# Altium schematic symbol library arthurbenemann-Atmel.SchLib: 651 symbols (part 14 of 28)
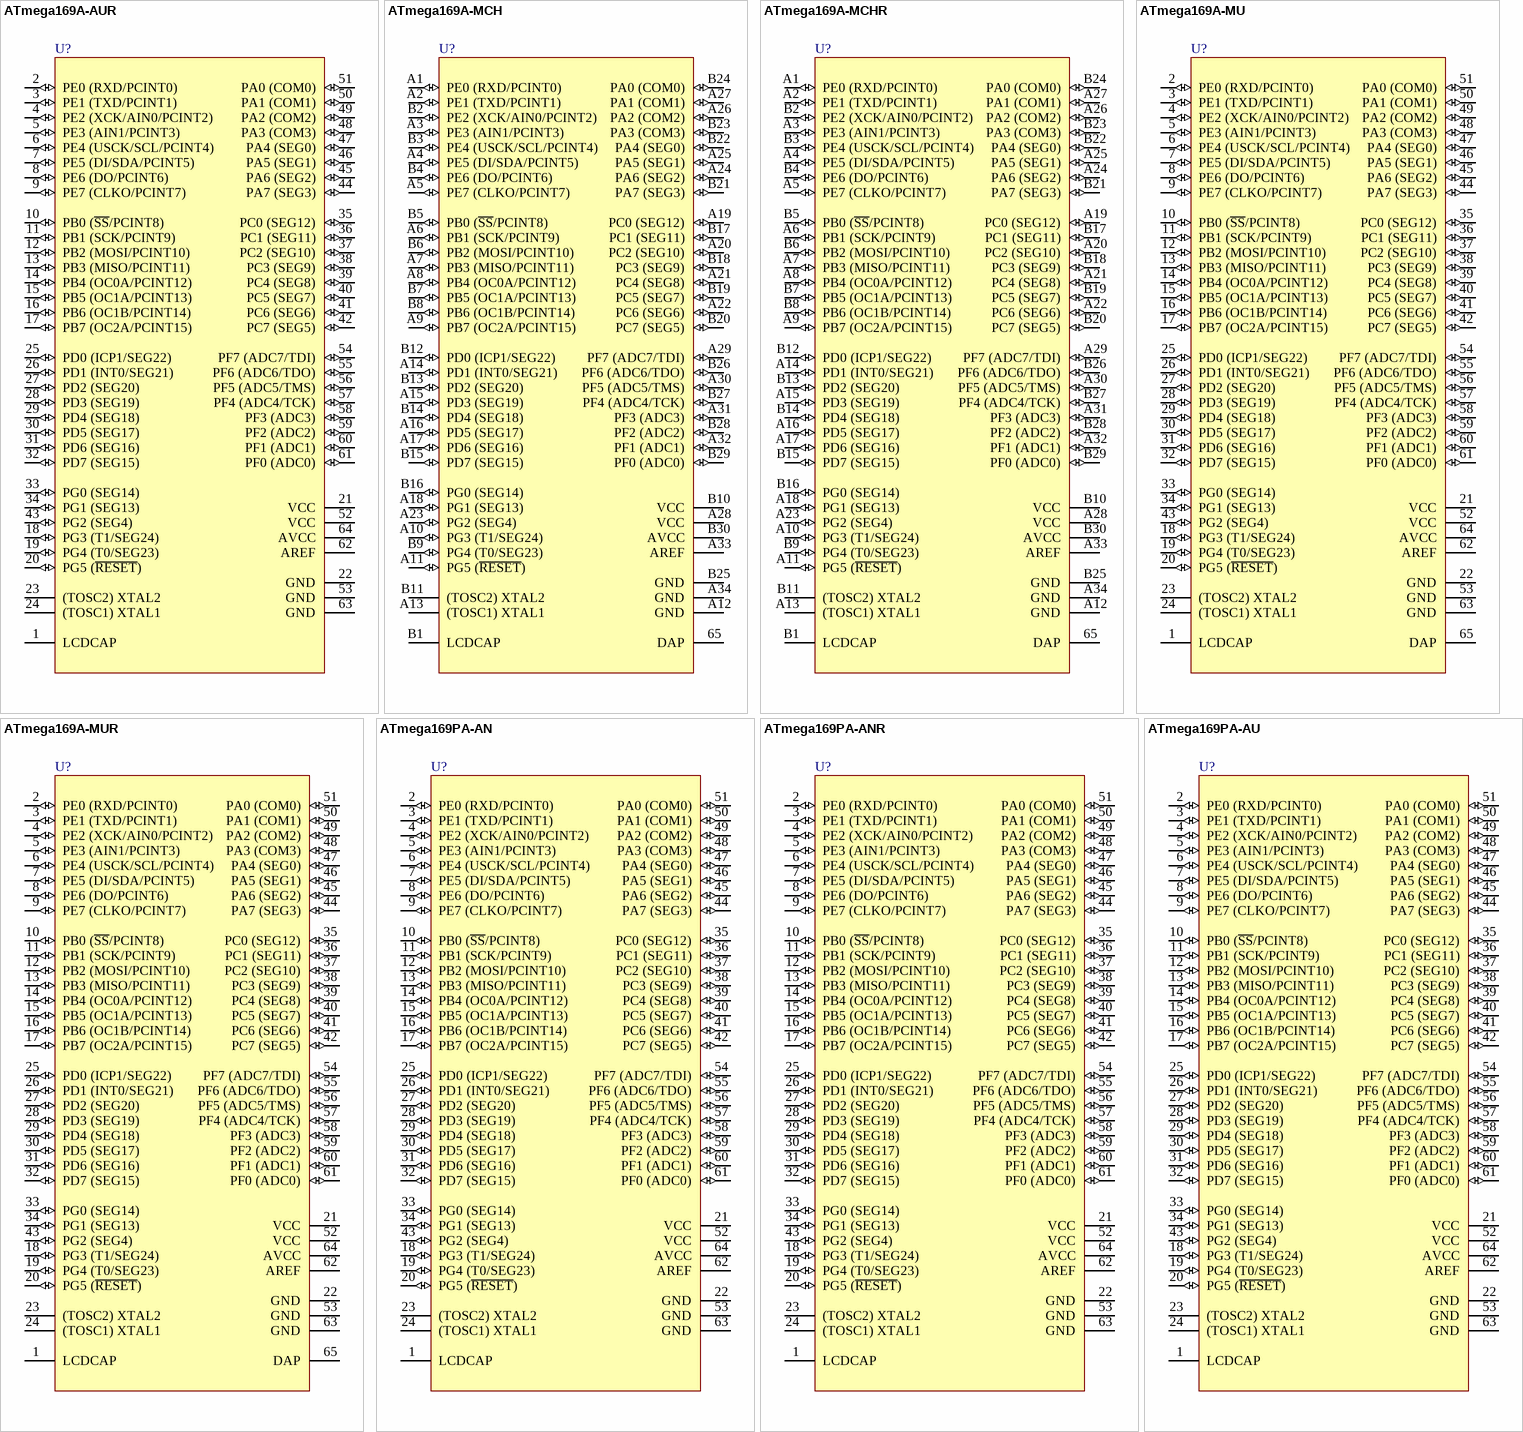
[diagram p99: symbols ATmega169A-AUR to ATmega169PA-AU]

## ATmega169PA-AU
designator U?
8-bit AVR Microcontroller, 1.8-5.5V, 16KB Flash, 512 Bytes EEPROM, 1KB SRAM, 64-pin TQFP, Industrial Grade (-40°C to 85°C); DatasheetVersion: revD, Jun-2011; PackageVersion: revC, Oct-2010; PackageReference: 64A; PackageDescription: 64-Pin Plastic Thin Profile Quad Flat Pack, 14 x 14 x 1.0 mm Body, 0.8 mm Pitch (TQFP); Code_JEDEC: MS-026-AEB; ComponentLink1Description: Manufacturer URL; ComponentLink1URL: http://www.atmel.com/; ComponentLink2Description: ATmega169A/PA/329A/PA/3290A/PA/649A/P/6490A/P; ComponentLink2URL: http://www.atmel.com/dyn/resources/prod_documents/doc8284.pdf; ComponentLink3Description: ATmega169A/PA/329A/PA/3290A/PA/649A/P/6490/A/P Summary; ComponentLink3URL: http://www.atmel.com/dyn/resources/prod_documents/8284S.pdf
footprint 64A_N (Thin QFP, 64-Leads, Body 14x14mm, Pitch 0.8mm, IPC Medium Density)
footprint 64A_L (Thin QFP, 64-Leads, Body 14x14mm, Pitch 0.8mm, IPC High Density)
footprint 64A_M (Thin QFP, 64-Leads, Body 14x14mm, Pitch 0.8mm, IPC Low Density)
pins: 1 LCDCAP, 2 PE0 (RXD/PCINT0) (io), 3 PE1 (TXD/PCINT1) (io), 4 PE2 (XCK/AIN0/PCINT2) (io), 5 PE3 (AIN1/PCINT3) (io), 6 PE4 (USCK/SCL/PCINT4) (io), 7 PE5 (DI/SDA/PCINT5) (io), 8 PE6 (DO/PCINT6) (io), 9 PE7 (CLKO/PCINT7) (io), 10 PB0 (~{SS}/PCINT8) (io), 11 PB1 (SCK/PCINT9) (io), 12 PB2 (MOSI/PCINT10) (io), 13 PB3 (MISO/PCINT11) (io), 14 PB4 (OC0A/PCINT12) (io), 15 PB5 (OC1A/PCINT13) (io), 16 PB6 (OC1B/PCINT14) (io), 17 PB7 (OC2A/PCINT15) (io), 18 PG3 (T1/SEG24) (io), 19 PG4 (T0/SEG23) (io), 20 PG5 (~{RESET}) (io), 21 VCC (power), 22 GND (power), 23 (TOSC2) XTAL2, 24 (TOSC1) XTAL1, 25 PD0 (ICP1/SEG22) (io), 26 PD1 (INT0/SEG21) (io), 27 PD2 (SEG20) (io), 28 PD3 (SEG19) (io), 29 PD4 (SEG18) (io), 30 PD5 (SEG17) (io), 31 PD6 (SEG16) (io), 32 PD7 (SEG15) (io), 33 PG0 (SEG14) (io), 34 PG1 (SEG13) (io), 35 PC0 (SEG12) (io), 36 PC1 (SEG11) (io), 37 PC2 (SEG10) (io), 38 PC3 (SEG9) (io), 39 PC4 (SEG8) (io), 40 PC5 (SEG7) (io), 41 PC6 (SEG6) (io), 42 PC7 (SEG5) (io), 43 PG2 (SEG4) (io), 44 PA7 (SEG3) (io), 45 PA6 (SEG2) (io), 46 PA5 (SEG1) (io), 47 PA4 (SEG0) (io), 48 PA3 (COM3) (io), 49 PA2 (COM2) (io), 50 PA1 (COM1) (io), 51 PA0 (COM0) (io), 52 VCC (power), 53 GND (power), 54 PF7 (ADC7/TDI) (io), 55 PF6 (ADC6/TDO) (io), 56 PF5 (ADC5/TMS) (io), 57 PF4 (ADC4/TCK) (io), 58 PF3 (ADC3) (io), 59 PF2 (ADC2) (io), 60 PF1 (ADC1) (io), 61 PF0 (ADC0) (io), 62 AREF, 63 GND (power), 64 AVCC (power)

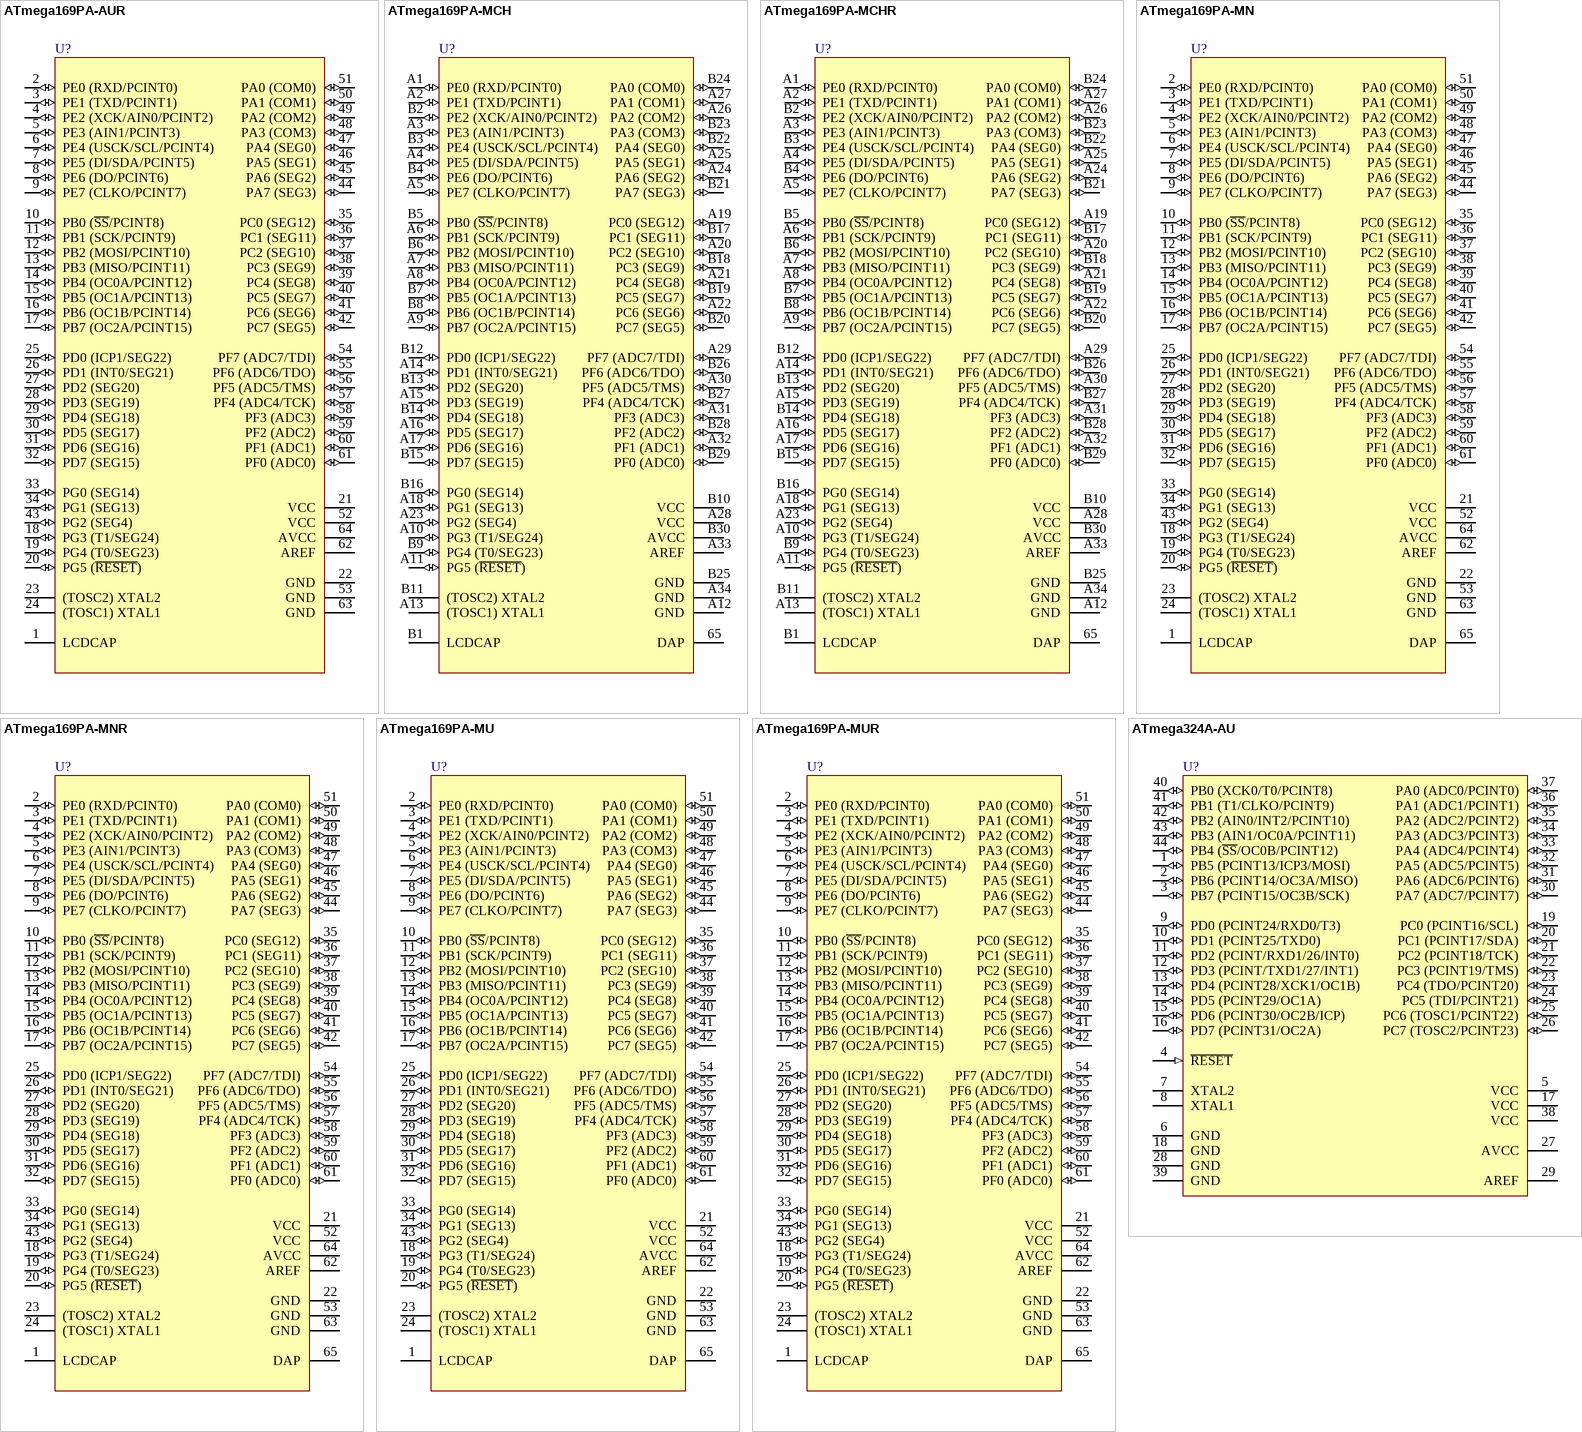
[diagram p35: symbols ATmega169PA-AUR to ATmega324A-AU]

## ATmega169PA-AUR
designator U?
8-bit AVR Microcontroller, 1.8-5.5V, 16KB Flash, 512 Bytes EEPROM, 1KB SRAM, 64-pin TQFP, Industrial Grade (-40°C to 85°C), Reel; DatasheetVersion: revD, Jun-2011; PackageVersion: revC, Oct-2010; PackageReference: 64A; PackageDescription: 64-Pin Plastic Thin Profile Quad Flat Pack, 14 x 14 x 1.0 mm Body, 0.8 mm Pitch (TQFP); Code_JEDEC: MS-026-AEB; ComponentLink1Description: Manufacturer URL; ComponentLink1URL: http://www.atmel.com/; ComponentLink2Description: ATmega169A/PA/329A/PA/3290A/PA/649A/P/6490A/P; ComponentLink2URL: http://www.atmel.com/dyn/resources/prod_documents/doc8284.pdf; ComponentLink3Description: ATmega169A/PA/329A/PA/3290A/PA/649A/P/6490/A/P Summary; ComponentLink3URL: http://www.atmel.com/dyn/resources/prod_documents/8284S.pdf
footprint 64A_N (Thin QFP, 64-Leads, Body 14x14mm, Pitch 0.8mm, IPC Medium Density)
footprint 64A_L (Thin QFP, 64-Leads, Body 14x14mm, Pitch 0.8mm, IPC High Density)
footprint 64A_M (Thin QFP, 64-Leads, Body 14x14mm, Pitch 0.8mm, IPC Low Density)
pins: 1 LCDCAP, 2 PE0 (RXD/PCINT0) (io), 3 PE1 (TXD/PCINT1) (io), 4 PE2 (XCK/AIN0/PCINT2) (io), 5 PE3 (AIN1/PCINT3) (io), 6 PE4 (USCK/SCL/PCINT4) (io), 7 PE5 (DI/SDA/PCINT5) (io), 8 PE6 (DO/PCINT6) (io), 9 PE7 (CLKO/PCINT7) (io), 10 PB0 (~{SS}/PCINT8) (io), 11 PB1 (SCK/PCINT9) (io), 12 PB2 (MOSI/PCINT10) (io), 13 PB3 (MISO/PCINT11) (io), 14 PB4 (OC0A/PCINT12) (io), 15 PB5 (OC1A/PCINT13) (io), 16 PB6 (OC1B/PCINT14) (io), 17 PB7 (OC2A/PCINT15) (io), 18 PG3 (T1/SEG24) (io), 19 PG4 (T0/SEG23) (io), 20 PG5 (~{RESET}) (io), 21 VCC (power), 22 GND (power), 23 (TOSC2) XTAL2, 24 (TOSC1) XTAL1, 25 PD0 (ICP1/SEG22) (io), 26 PD1 (INT0/SEG21) (io), 27 PD2 (SEG20) (io), 28 PD3 (SEG19) (io), 29 PD4 (SEG18) (io), 30 PD5 (SEG17) (io), 31 PD6 (SEG16) (io), 32 PD7 (SEG15) (io), 33 PG0 (SEG14) (io), 34 PG1 (SEG13) (io), 35 PC0 (SEG12) (io), 36 PC1 (SEG11) (io), 37 PC2 (SEG10) (io), 38 PC3 (SEG9) (io), 39 PC4 (SEG8) (io), 40 PC5 (SEG7) (io), 41 PC6 (SEG6) (io), 42 PC7 (SEG5) (io), 43 PG2 (SEG4) (io), 44 PA7 (SEG3) (io), 45 PA6 (SEG2) (io), 46 PA5 (SEG1) (io), 47 PA4 (SEG0) (io), 48 PA3 (COM3) (io), 49 PA2 (COM2) (io), 50 PA1 (COM1) (io), 51 PA0 (COM0) (io), 52 VCC (power), 53 GND (power), 54 PF7 (ADC7/TDI) (io), 55 PF6 (ADC6/TDO) (io), 56 PF5 (ADC5/TMS) (io), 57 PF4 (ADC4/TCK) (io), 58 PF3 (ADC3) (io), 59 PF2 (ADC2) (io), 60 PF1 (ADC1) (io), 61 PF0 (ADC0) (io), 62 AREF, 63 GND (power), 64 AVCC (power)

## ATmega169PA-MCH
designator U?
8-bit AVR Microcontroller, 1.8-5.5V, 16KB Flash, 512 Bytes EEPROM, 1KB SRAM, 64-pin DRQFN, Industrial Grade (-40°C to 85°C); DatasheetVersion: revD, Jun-2011; PackageVersion: revA, Oct-2007; PackageReference: 64MC; PackageDescription: 64-Pin Quad Flat No-Lead (2-Row Staggered), 7 x 7 x 1 mm Body, 4.0 x 4.0 mm Exposed Pad; ComponentLink1Description: Manufacturer URL; ComponentLink1URL: http://www.atmel.com/; ComponentLink2Description: ATmega169A/PA/329A/PA/3290A/PA/649A/P/6490A/P; ComponentLink2URL: http://www.atmel.com/dyn/resources/prod_documents/doc8284.pdf; ComponentLink3Description: ATmega169A/PA/329A/PA/3290A/PA/649A/P/6490/A/P Summary; ComponentLink3URL: http://www.atmel.com/dyn/resources/prod_documents/8284S.pdf
footprint 64MC (QFN, 64-Leads, 2-Rows Staggered, Body 7x7mm, Pitch 0.65mm, Thermal Pad 4x4mm)
pins: 65 DAP (power), A1 PE0 (RXD/PCINT0) (io), A2 PE1 (TXD/PCINT1) (io), A3 PE3 (AIN1/PCINT3) (io), A4 PE5 (DI/SDA/PCINT5) (io), A5 PE7 (CLKO/PCINT7) (io), A6 PB1 (SCK/PCINT9) (io), A7 PB3 (MISO/PCINT11) (io), A8 PB4 (OC0A/PCINT12) (io), A9 PB7 (OC2A/PCINT15) (io), A10 PG3 (T1/SEG24) (io), A11 PG5 (~{RESET}) (io), A12 GND (power), A13 (TOSC1) XTAL1, A14 PD1 (INT0/SEG21) (io), A15 PD3 (SEG19) (io), A16 PD5 (SEG17) (io), A17 PD6 (SEG16) (io), A18 PG1 (SEG13) (io), A19 PC0 (SEG12) (io), A20 PC2 (SEG10) (io), A21 PC4 (SEG8) (io), A22 PC6 (SEG6) (io), A23 PG2 (SEG4) (io), A24 PA6 (SEG2) (io), A25 PA5 (SEG1) (io), A26 PA2 (COM2) (io), A27 PA1 (COM1) (io), A28 VCC (power), A29 PF7 (ADC7/TDI) (io), A30 PF5 (ADC5/TMS) (io), A31 PF3 (ADC3) (io), A32 PF1 (ADC1) (io), A33 AREF, A34 GND (power), B1 LCDCAP, B2 PE2 (XCK/AIN0/PCINT2) (io), B3 PE4 (USCK/SCL/PCINT4) (io), B4 PE6 (DO/PCINT6) (io), B5 PB0 (~{SS}/PCINT8) (io), B6 PB2 (MOSI/PCINT10) (io), B7 PB5 (OC1A/PCINT13) (io), B8 PB6 (OC1B/PCINT14) (io), B9 PG4 (T0/SEG23) (io), B10 VCC (power), B11 (TOSC2) XTAL2, B12 PD0 (ICP1/SEG22) (io), B13 PD2 (SEG20) (io), B14 PD4 (SEG18) (io), B15 PD7 (SEG15) (io), B16 PG0 (SEG14) (io), B17 PC1 (SEG11) (io), B18 PC3 (SEG9) (io), B19 PC5 (SEG7) (io), B20 PC7 (SEG5) (io), B21 PA7 (SEG3) (io), B22 PA4 (SEG0) (io), B23 PA3 (COM3) (io), B24 PA0 (COM0) (io), B25 GND (power), B26 PF6 (ADC6/TDO) (io), B27 PF4 (ADC4/TCK) (io), B28 PF2 (ADC2) (io), B29 PF0 (ADC0) (io), B30 AVCC (power)

## ATmega169PA-MCHR
designator U?
8-bit AVR Microcontroller, 1.8-5.5V, 16KB Flash, 512 Bytes EEPROM, 1KB SRAM, 64-pin DRQFN, Industrial Grade (-40°C to 85°C), Reel; DatasheetVersion: revD, Jun-2011; PackageVersion: revA, Oct-2007; PackageReference: 64MC; PackageDescription: 64-Pin Quad Flat No-Lead (2-Row Staggered), 7 x 7 x 1 mm Body, 4.0 x 4.0 mm Exposed Pad; ComponentLink1Description: Manufacturer URL; ComponentLink1URL: http://www.atmel.com/; ComponentLink2Description: ATmega169A/PA/329A/PA/3290A/PA/649A/P/6490A/P; ComponentLink2URL: http://www.atmel.com/dyn/resources/prod_documents/doc8284.pdf; ComponentLink3Description: ATmega169A/PA/329A/PA/3290A/PA/649A/P/6490/A/P Summary; ComponentLink3URL: http://www.atmel.com/dyn/resources/prod_documents/8284S.pdf
footprint 64MC (QFN, 64-Leads, 2-Rows Staggered, Body 7x7mm, Pitch 0.65mm, Thermal Pad 4x4mm)
pins: 65 DAP (power), A1 PE0 (RXD/PCINT0) (io), A2 PE1 (TXD/PCINT1) (io), A3 PE3 (AIN1/PCINT3) (io), A4 PE5 (DI/SDA/PCINT5) (io), A5 PE7 (CLKO/PCINT7) (io), A6 PB1 (SCK/PCINT9) (io), A7 PB3 (MISO/PCINT11) (io), A8 PB4 (OC0A/PCINT12) (io), A9 PB7 (OC2A/PCINT15) (io), A10 PG3 (T1/SEG24) (io), A11 PG5 (~{RESET}) (io), A12 GND (power), A13 (TOSC1) XTAL1, A14 PD1 (INT0/SEG21) (io), A15 PD3 (SEG19) (io), A16 PD5 (SEG17) (io), A17 PD6 (SEG16) (io), A18 PG1 (SEG13) (io), A19 PC0 (SEG12) (io), A20 PC2 (SEG10) (io), A21 PC4 (SEG8) (io), A22 PC6 (SEG6) (io), A23 PG2 (SEG4) (io), A24 PA6 (SEG2) (io), A25 PA5 (SEG1) (io), A26 PA2 (COM2) (io), A27 PA1 (COM1) (io), A28 VCC (power), A29 PF7 (ADC7/TDI) (io), A30 PF5 (ADC5/TMS) (io), A31 PF3 (ADC3) (io), A32 PF1 (ADC1) (io), A33 AREF, A34 GND (power), B1 LCDCAP, B2 PE2 (XCK/AIN0/PCINT2) (io), B3 PE4 (USCK/SCL/PCINT4) (io), B4 PE6 (DO/PCINT6) (io), B5 PB0 (~{SS}/PCINT8) (io), B6 PB2 (MOSI/PCINT10) (io), B7 PB5 (OC1A/PCINT13) (io), B8 PB6 (OC1B/PCINT14) (io), B9 PG4 (T0/SEG23) (io), B10 VCC (power), B11 (TOSC2) XTAL2, B12 PD0 (ICP1/SEG22) (io), B13 PD2 (SEG20) (io), B14 PD4 (SEG18) (io), B15 PD7 (SEG15) (io), B16 PG0 (SEG14) (io), B17 PC1 (SEG11) (io), B18 PC3 (SEG9) (io), B19 PC5 (SEG7) (io), B20 PC7 (SEG5) (io), B21 PA7 (SEG3) (io), B22 PA4 (SEG0) (io), B23 PA3 (COM3) (io), B24 PA0 (COM0) (io), B25 GND (power), B26 PF6 (ADC6/TDO) (io), B27 PF4 (ADC4/TCK) (io), B28 PF2 (ADC2) (io), B29 PF0 (ADC0) (io), B30 AVCC (power)

## ATmega169PA-MN
designator U?
8-bit AVR Microcontroller, 1.8-5.5V, 16KB Flash, 512 Bytes EEPROM, 1KB SRAM, 64-pin MLF, Extended Grade (-40°C to 105°C); DatasheetVersion: revD, Jun-2011; PackageVersion: revH, Oct-2010; PackageReference: 64M1; PackageDescription: 64-Pin Micro Lead Frame Package (MLF), 9 x 9 x 1.0 mm Body, 0.5 mm Pitch, 5.40 mm Exposed Pad; Code_JEDEC: MO-220-VMMD; ComponentLink1Description: Manufacturer URL; ComponentLink1URL: http://www.atmel.com/; ComponentLink2Description: ATmega169A/PA/329A/PA/3290A/PA/649A/P/6490A/P; ComponentLink2URL: http://www.atmel.com/dyn/resources/prod_documents/doc8284.pdf; ComponentLink3Description: ATmega169A/PA/329A/PA/3290A/PA/649A/P/6490/A/P Summary; ComponentLink3URL: http://www.atmel.com/dyn/resources/prod_documents/8284S.pdf
footprint 64M1_N (QFN, 64-Leads, Body 9x9mm, Pitch 0.5mm, Thermal Pad 5.6x5.6mm, IPC Medium Density)
footprint 64M1_L (QFN, 64-Leads, Body 9x9mm, Pitch 0.5mm, Thermal Pad 5.6x5.6mm, IPC High Density)
footprint 64M1_M (QFN, 64-Leads, Body 9x9mm, Pitch 0.5mm, Thermal Pad 5.6x5.6mm, IPC Low Density)
pins: 1 LCDCAP, 2 PE0 (RXD/PCINT0) (io), 3 PE1 (TXD/PCINT1) (io), 4 PE2 (XCK/AIN0/PCINT2) (io), 5 PE3 (AIN1/PCINT3) (io), 6 PE4 (USCK/SCL/PCINT4) (io), 7 PE5 (DI/SDA/PCINT5) (io), 8 PE6 (DO/PCINT6) (io), 9 PE7 (CLKO/PCINT7) (io), 10 PB0 (~{SS}/PCINT8) (io), 11 PB1 (SCK/PCINT9) (io), 12 PB2 (MOSI/PCINT10) (io), 13 PB3 (MISO/PCINT11) (io), 14 PB4 (OC0A/PCINT12) (io), 15 PB5 (OC1A/PCINT13) (io), 16 PB6 (OC1B/PCINT14) (io), 17 PB7 (OC2A/PCINT15) (io), 18 PG3 (T1/SEG24) (io), 19 PG4 (T0/SEG23) (io), 20 PG5 (~{RESET}) (io), 21 VCC (power), 22 GND (power), 23 (TOSC2) XTAL2, 24 (TOSC1) XTAL1, 25 PD0 (ICP1/SEG22) (io), 26 PD1 (INT0/SEG21) (io), 27 PD2 (SEG20) (io), 28 PD3 (SEG19) (io), 29 PD4 (SEG18) (io), 30 PD5 (SEG17) (io), 31 PD6 (SEG16) (io), 32 PD7 (SEG15) (io), 33 PG0 (SEG14) (io), 34 PG1 (SEG13) (io), 35 PC0 (SEG12) (io), 36 PC1 (SEG11) (io), 37 PC2 (SEG10) (io), 38 PC3 (SEG9) (io), 39 PC4 (SEG8) (io), 40 PC5 (SEG7) (io), 41 PC6 (SEG6) (io), 42 PC7 (SEG5) (io), 43 PG2 (SEG4) (io), 44 PA7 (SEG3) (io), 45 PA6 (SEG2) (io), 46 PA5 (SEG1) (io), 47 PA4 (SEG0) (io), 48 PA3 (COM3) (io), 49 PA2 (COM2) (io), 50 PA1 (COM1) (io), 51 PA0 (COM0) (io), 52 VCC (power), 53 GND (power), 54 PF7 (ADC7/TDI) (io), 55 PF6 (ADC6/TDO) (io), 56 PF5 (ADC5/TMS) (io), 57 PF4 (ADC4/TCK) (io), 58 PF3 (ADC3) (io), 59 PF2 (ADC2) (io), 60 PF1 (ADC1) (io), 61 PF0 (ADC0) (io), 62 AREF, 63 GND (power), 64 AVCC (power), 65 DAP (power)

## ATmega169PA-MNR
designator U?
8-bit AVR Microcontroller, 1.8-5.5V, 16KB Flash, 512 Bytes EEPROM, 1KB SRAM, 64-pin MLF, Extended Grade (-40°C to 105°C), Reel; DatasheetVersion: revD, Jun-2011; PackageVersion: revH, Oct-2010; PackageReference: 64M1; PackageDescription: 64-Pin Micro Lead Frame Package (MLF), 9 x 9 x 1.0 mm Body, 0.5 mm Pitch, 5.40 mm Exposed Pad; Code_JEDEC: MO-220-VMMD; ComponentLink1Description: Manufacturer URL; ComponentLink1URL: http://www.atmel.com/; ComponentLink2Description: ATmega169A/PA/329A/PA/3290A/PA/649A/P/6490A/P; ComponentLink2URL: http://www.atmel.com/dyn/resources/prod_documents/doc8284.pdf; ComponentLink3Description: ATmega169A/PA/329A/PA/3290A/PA/649A/P/6490/A/P Summary; ComponentLink3URL: http://www.atmel.com/dyn/resources/prod_documents/8284S.pdf
footprint 64M1_N (QFN, 64-Leads, Body 9x9mm, Pitch 0.5mm, Thermal Pad 5.6x5.6mm, IPC Medium Density)
footprint 64M1_L (QFN, 64-Leads, Body 9x9mm, Pitch 0.5mm, Thermal Pad 5.6x5.6mm, IPC High Density)
footprint 64M1_M (QFN, 64-Leads, Body 9x9mm, Pitch 0.5mm, Thermal Pad 5.6x5.6mm, IPC Low Density)
pins: 1 LCDCAP, 2 PE0 (RXD/PCINT0) (io), 3 PE1 (TXD/PCINT1) (io), 4 PE2 (XCK/AIN0/PCINT2) (io), 5 PE3 (AIN1/PCINT3) (io), 6 PE4 (USCK/SCL/PCINT4) (io), 7 PE5 (DI/SDA/PCINT5) (io), 8 PE6 (DO/PCINT6) (io), 9 PE7 (CLKO/PCINT7) (io), 10 PB0 (~{SS}/PCINT8) (io), 11 PB1 (SCK/PCINT9) (io), 12 PB2 (MOSI/PCINT10) (io), 13 PB3 (MISO/PCINT11) (io), 14 PB4 (OC0A/PCINT12) (io), 15 PB5 (OC1A/PCINT13) (io), 16 PB6 (OC1B/PCINT14) (io), 17 PB7 (OC2A/PCINT15) (io), 18 PG3 (T1/SEG24) (io), 19 PG4 (T0/SEG23) (io), 20 PG5 (~{RESET}) (io), 21 VCC (power), 22 GND (power), 23 (TOSC2) XTAL2, 24 (TOSC1) XTAL1, 25 PD0 (ICP1/SEG22) (io), 26 PD1 (INT0/SEG21) (io), 27 PD2 (SEG20) (io), 28 PD3 (SEG19) (io), 29 PD4 (SEG18) (io), 30 PD5 (SEG17) (io), 31 PD6 (SEG16) (io), 32 PD7 (SEG15) (io), 33 PG0 (SEG14) (io), 34 PG1 (SEG13) (io), 35 PC0 (SEG12) (io), 36 PC1 (SEG11) (io), 37 PC2 (SEG10) (io), 38 PC3 (SEG9) (io), 39 PC4 (SEG8) (io), 40 PC5 (SEG7) (io), 41 PC6 (SEG6) (io), 42 PC7 (SEG5) (io), 43 PG2 (SEG4) (io), 44 PA7 (SEG3) (io), 45 PA6 (SEG2) (io), 46 PA5 (SEG1) (io), 47 PA4 (SEG0) (io), 48 PA3 (COM3) (io), 49 PA2 (COM2) (io), 50 PA1 (COM1) (io), 51 PA0 (COM0) (io), 52 VCC (power), 53 GND (power), 54 PF7 (ADC7/TDI) (io), 55 PF6 (ADC6/TDO) (io), 56 PF5 (ADC5/TMS) (io), 57 PF4 (ADC4/TCK) (io), 58 PF3 (ADC3) (io), 59 PF2 (ADC2) (io), 60 PF1 (ADC1) (io), 61 PF0 (ADC0) (io), 62 AREF, 63 GND (power), 64 AVCC (power), 65 DAP (power)

## ATmega169PA-MU
designator U?
8-bit AVR Microcontroller, 1.8-5.5V, 16KB Flash, 512 Bytes EEPROM, 1KB SRAM, 64-pin MLF, Industrial Grade (-40°C to 85°C); DatasheetVersion: revD, Jun-2011; PackageVersion: revH, Oct-2010; PackageReference: 64M1; PackageDescription: 64-Pin Micro Lead Frame Package (MLF), 9 x 9 x 1.0 mm Body, 0.5 mm Pitch, 5.40 mm Exposed Pad; Code_JEDEC: MO-220-VMMD; ComponentLink1Description: Manufacturer URL; ComponentLink1URL: http://www.atmel.com/; ComponentLink2Description: ATmega169A/PA/329A/PA/3290A/PA/649A/P/6490A/P; ComponentLink2URL: http://www.atmel.com/dyn/resources/prod_documents/doc8284.pdf; ComponentLink3Description: ATmega169A/PA/329A/PA/3290A/PA/649A/P/6490/A/P Summary; ComponentLink3URL: http://www.atmel.com/dyn/resources/prod_documents/8284S.pdf
footprint 64M1_N (QFN, 64-Leads, Body 9x9mm, Pitch 0.5mm, Thermal Pad 5.6x5.6mm, IPC Medium Density)
footprint 64M1_L (QFN, 64-Leads, Body 9x9mm, Pitch 0.5mm, Thermal Pad 5.6x5.6mm, IPC High Density)
footprint 64M1_M (QFN, 64-Leads, Body 9x9mm, Pitch 0.5mm, Thermal Pad 5.6x5.6mm, IPC Low Density)
pins: 1 LCDCAP, 2 PE0 (RXD/PCINT0) (io), 3 PE1 (TXD/PCINT1) (io), 4 PE2 (XCK/AIN0/PCINT2) (io), 5 PE3 (AIN1/PCINT3) (io), 6 PE4 (USCK/SCL/PCINT4) (io), 7 PE5 (DI/SDA/PCINT5) (io), 8 PE6 (DO/PCINT6) (io), 9 PE7 (CLKO/PCINT7) (io), 10 PB0 (~{SS}/PCINT8) (io), 11 PB1 (SCK/PCINT9) (io), 12 PB2 (MOSI/PCINT10) (io), 13 PB3 (MISO/PCINT11) (io), 14 PB4 (OC0A/PCINT12) (io), 15 PB5 (OC1A/PCINT13) (io), 16 PB6 (OC1B/PCINT14) (io), 17 PB7 (OC2A/PCINT15) (io), 18 PG3 (T1/SEG24) (io), 19 PG4 (T0/SEG23) (io), 20 PG5 (~{RESET}) (io), 21 VCC (power), 22 GND (power), 23 (TOSC2) XTAL2, 24 (TOSC1) XTAL1, 25 PD0 (ICP1/SEG22) (io), 26 PD1 (INT0/SEG21) (io), 27 PD2 (SEG20) (io), 28 PD3 (SEG19) (io), 29 PD4 (SEG18) (io), 30 PD5 (SEG17) (io), 31 PD6 (SEG16) (io), 32 PD7 (SEG15) (io), 33 PG0 (SEG14) (io), 34 PG1 (SEG13) (io), 35 PC0 (SEG12) (io), 36 PC1 (SEG11) (io), 37 PC2 (SEG10) (io), 38 PC3 (SEG9) (io), 39 PC4 (SEG8) (io), 40 PC5 (SEG7) (io), 41 PC6 (SEG6) (io), 42 PC7 (SEG5) (io), 43 PG2 (SEG4) (io), 44 PA7 (SEG3) (io), 45 PA6 (SEG2) (io), 46 PA5 (SEG1) (io), 47 PA4 (SEG0) (io), 48 PA3 (COM3) (io), 49 PA2 (COM2) (io), 50 PA1 (COM1) (io), 51 PA0 (COM0) (io), 52 VCC (power), 53 GND (power), 54 PF7 (ADC7/TDI) (io), 55 PF6 (ADC6/TDO) (io), 56 PF5 (ADC5/TMS) (io), 57 PF4 (ADC4/TCK) (io), 58 PF3 (ADC3) (io), 59 PF2 (ADC2) (io), 60 PF1 (ADC1) (io), 61 PF0 (ADC0) (io), 62 AREF, 63 GND (power), 64 AVCC (power), 65 DAP (power)

## ATmega169PA-MUR
designator U?
8-bit AVR Microcontroller, 1.8-5.5V, 16KB Flash, 512 Bytes EEPROM, 1KB SRAM, 64-pin MLF, Industrial Grade (-40°C to 85°C), Reel; DatasheetVersion: revD, Jun-2011; PackageVersion: revH, Oct-2010; PackageReference: 64M1; PackageDescription: 64-Pin Micro Lead Frame Package (MLF), 9 x 9 x 1.0 mm Body, 0.5 mm Pitch, 5.40 mm Exposed Pad; Code_JEDEC: MO-220-VMMD; ComponentLink1Description: Manufacturer URL; ComponentLink1URL: http://www.atmel.com/; ComponentLink2Description: ATmega169A/PA/329A/PA/3290A/PA/649A/P/6490A/P; ComponentLink2URL: http://www.atmel.com/dyn/resources/prod_documents/doc8284.pdf; ComponentLink3Description: ATmega169A/PA/329A/PA/3290A/PA/649A/P/6490/A/P Summary; ComponentLink3URL: http://www.atmel.com/dyn/resources/prod_documents/8284S.pdf
footprint 64M1_N (QFN, 64-Leads, Body 9x9mm, Pitch 0.5mm, Thermal Pad 5.6x5.6mm, IPC Medium Density)
footprint 64M1_L (QFN, 64-Leads, Body 9x9mm, Pitch 0.5mm, Thermal Pad 5.6x5.6mm, IPC High Density)
footprint 64M1_M (QFN, 64-Leads, Body 9x9mm, Pitch 0.5mm, Thermal Pad 5.6x5.6mm, IPC Low Density)
pins: 1 LCDCAP, 2 PE0 (RXD/PCINT0) (io), 3 PE1 (TXD/PCINT1) (io), 4 PE2 (XCK/AIN0/PCINT2) (io), 5 PE3 (AIN1/PCINT3) (io), 6 PE4 (USCK/SCL/PCINT4) (io), 7 PE5 (DI/SDA/PCINT5) (io), 8 PE6 (DO/PCINT6) (io), 9 PE7 (CLKO/PCINT7) (io), 10 PB0 (~{SS}/PCINT8) (io), 11 PB1 (SCK/PCINT9) (io), 12 PB2 (MOSI/PCINT10) (io), 13 PB3 (MISO/PCINT11) (io), 14 PB4 (OC0A/PCINT12) (io), 15 PB5 (OC1A/PCINT13) (io), 16 PB6 (OC1B/PCINT14) (io), 17 PB7 (OC2A/PCINT15) (io), 18 PG3 (T1/SEG24) (io), 19 PG4 (T0/SEG23) (io), 20 PG5 (~{RESET}) (io), 21 VCC (power), 22 GND (power), 23 (TOSC2) XTAL2, 24 (TOSC1) XTAL1, 25 PD0 (ICP1/SEG22) (io), 26 PD1 (INT0/SEG21) (io), 27 PD2 (SEG20) (io), 28 PD3 (SEG19) (io), 29 PD4 (SEG18) (io), 30 PD5 (SEG17) (io), 31 PD6 (SEG16) (io), 32 PD7 (SEG15) (io), 33 PG0 (SEG14) (io), 34 PG1 (SEG13) (io), 35 PC0 (SEG12) (io), 36 PC1 (SEG11) (io), 37 PC2 (SEG10) (io), 38 PC3 (SEG9) (io), 39 PC4 (SEG8) (io), 40 PC5 (SEG7) (io), 41 PC6 (SEG6) (io), 42 PC7 (SEG5) (io), 43 PG2 (SEG4) (io), 44 PA7 (SEG3) (io), 45 PA6 (SEG2) (io), 46 PA5 (SEG1) (io), 47 PA4 (SEG0) (io), 48 PA3 (COM3) (io), 49 PA2 (COM2) (io), 50 PA1 (COM1) (io), 51 PA0 (COM0) (io), 52 VCC (power), 53 GND (power), 54 PF7 (ADC7/TDI) (io), 55 PF6 (ADC6/TDO) (io), 56 PF5 (ADC5/TMS) (io), 57 PF4 (ADC4/TCK) (io), 58 PF3 (ADC3) (io), 59 PF2 (ADC2) (io), 60 PF1 (ADC1) (io), 61 PF0 (ADC0) (io), 62 AREF, 63 GND (power), 64 AVCC (power), 65 DAP (power)

## ATmega324A-AU
designator U?
8-bit AVR Microcontroller, 32KB Flash, 1KB EEPROM, 2KB SRAM, 44-pin TQFP, Industrial Grade (-40°C to 85°C); DatasheetVersion: revC, Jun-2011; PackageVersion: revC, Oct-2010; PackageReference: 44A; PackageDescription: 44-Pin Plastic Thin Profile Quad Flat Pack, 10 x 10 x 1.0 mm Body, 0.8 mm Pitch (TQFP); Code_JEDEC: MS-026-ACB; ComponentLink1Description: Manufacturer URL; ComponentLink1URL: http://www.atmel.com/; ComponentLink2Description: ATmega164A/164PA/324A/324PA/644A/644PA/1284/1284P Datasheet; ComponentLink2URL: http://www.atmel.com/dyn/resources/prod_documents/doc8272.pdf; ComponentLink3Description: ATmega164A/164PA/324A/324PA/644A/644PA/1284/1284P Summary; ComponentLink3URL: http://www.atmel.com/dyn/resources/prod_documents/8272S.pdf
footprint 44A_N (Thin QFP, 44-Leads, Body 10x10mm, Pitch 0.8mm, IPC Medium Density)
footprint 44A_L (Thin QFP, 44-Leads, Body 10x10mm, Pitch 0.8mm, IPC High Density)
footprint 44A_M (Thin QFP, 44-Leads, Body 10x10mm, Pitch 0.8mm, IPC Low Density)
pins: 1 PB5 (PCINT13/ICP3/MOSI) (io), 2 PB6 (PCINT14/OC3A/MISO) (io), 3 PB7 (PCINT15/OC3B/SCK) (io), 4 ~{RESET} (in), 5 VCC (power), 6 GND (power), 7 XTAL2, 8 XTAL1, 9 PD0 (PCINT24/RXD0/T3) (io), 10 PD1 (PCINT25/TXD0) (io), 11 PD2 (PCINT/RXD1/26/INT0) (io), 12 PD3 (PCINT/TXD1/27/INT1) (io), 13 PD4 (PCINT28/XCK1/OC1B) (io), 14 PD5 (PCINT29/OC1A) (io), 15 PD6 (PCINT30/OC2B/ICP) (io), 16 PD7 (PCINT31/OC2A) (io), 17 VCC (power), 18 GND (power), 19 PC0 (PCINT16/SCL) (io), 20 PC1 (PCINT17/SDA) (io), 21 PC2 (PCINT18/TCK) (io), 22 PC3 (PCINT19/TMS) (io), 23 PC4 (TDO/PCINT20) (io), 24 PC5 (TDI/PCINT21) (io), 25 PC6 (TOSC1/PCINT22) (io), 26 PC7 (TOSC2/PCINT23) (io), 27 AVCC (power), 28 GND (power), 29 AREF (power), 30 PA7 (ADC7/PCINT7) (io), 31 PA6 (ADC6/PCINT6) (io), 32 PA5 (ADC5/PCINT5) (io), 33 PA4 (ADC4/PCINT4) (io), 34 PA3 (ADC3/PCINT3) (io), 35 PA2 (ADC2/PCINT2) (io), 36 PA1 (ADC1/PCINT1) (io), 37 PA0 (ADC0/PCINT0) (io), 38 VCC (power), 39 GND (power), 40 PB0 (XCK0/T0/PCINT8) (io), 41 PB1 (T1/CLKO/PCINT9) (io), 42 PB2 (AIN0/INT2/PCINT10) (io), 43 PB3 (AIN1/OC0A/PCINT11) (io), 44 PB4 (~{SS}/OC0B/PCINT12) (io)

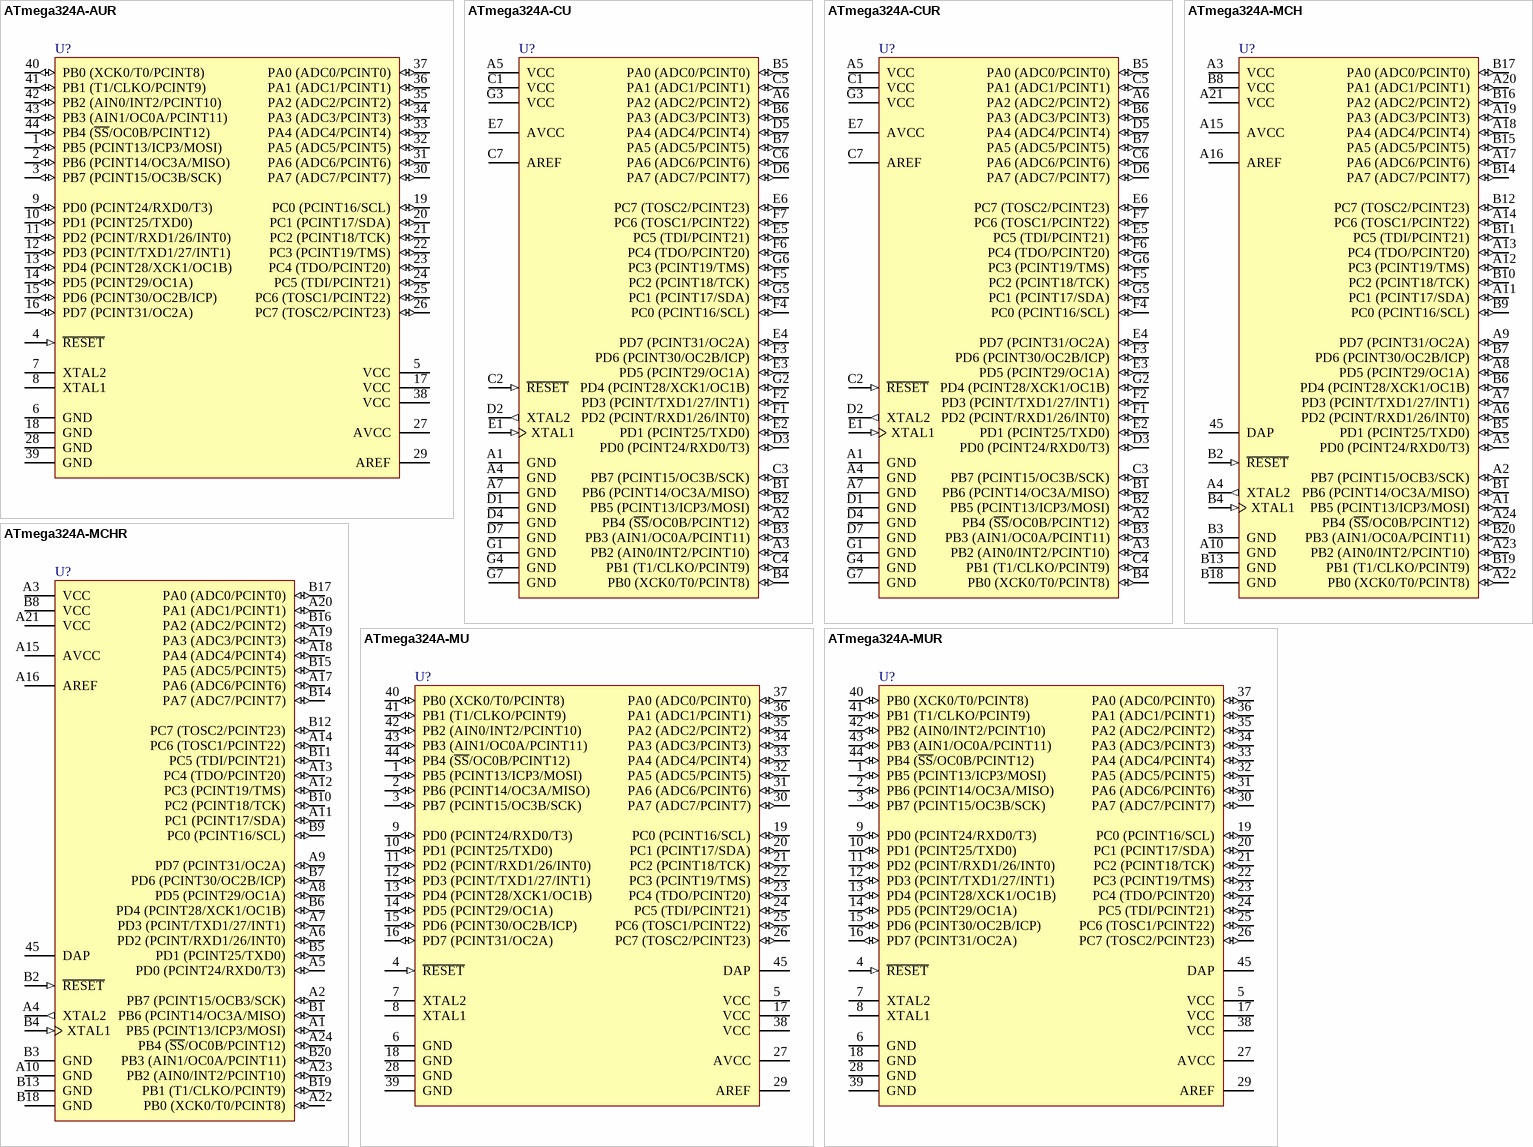
[diagram p36: symbols ATmega324A-AUR to ATmega324A-MUR]

## ATmega324A-AUR
designator U?
8-bit AVR Microcontroller, 32KB Flash, 1KB EEPROM, 2KB SRAM, 44-pin TQFP, Industrial Grade (-40°C to 85°C), Reel; DatasheetVersion: revC, Jun-2011; PackageVersion: revC, Oct-2010; PackageReference: 44A; PackageDescription: 44-Pin Plastic Thin Profile Quad Flat Pack, 10 x 10 x 1.0 mm Body, 0.8 mm Pitch (TQFP); Code_JEDEC: MS-026-ACB; ComponentLink1Description: Manufacturer URL; ComponentLink1URL: http://www.atmel.com/; ComponentLink2Description: ATmega164A/164PA/324A/324PA/644A/644PA/1284/1284P Datasheet; ComponentLink2URL: http://www.atmel.com/dyn/resources/prod_documents/doc8272.pdf; ComponentLink3Description: ATmega164A/164PA/324A/324PA/644A/644PA/1284/1284P Summary; ComponentLink3URL: http://www.atmel.com/dyn/resources/prod_documents/8272S.pdf
footprint 44A_N (Thin QFP, 44-Leads, Body 10x10mm, Pitch 0.8mm, IPC Medium Density)
footprint 44A_L (Thin QFP, 44-Leads, Body 10x10mm, Pitch 0.8mm, IPC High Density)
footprint 44A_M (Thin QFP, 44-Leads, Body 10x10mm, Pitch 0.8mm, IPC Low Density)
pins: 1 PB5 (PCINT13/ICP3/MOSI) (io), 2 PB6 (PCINT14/OC3A/MISO) (io), 3 PB7 (PCINT15/OC3B/SCK) (io), 4 ~{RESET} (in), 5 VCC (power), 6 GND (power), 7 XTAL2, 8 XTAL1, 9 PD0 (PCINT24/RXD0/T3) (io), 10 PD1 (PCINT25/TXD0) (io), 11 PD2 (PCINT/RXD1/26/INT0) (io), 12 PD3 (PCINT/TXD1/27/INT1) (io), 13 PD4 (PCINT28/XCK1/OC1B) (io), 14 PD5 (PCINT29/OC1A) (io), 15 PD6 (PCINT30/OC2B/ICP) (io), 16 PD7 (PCINT31/OC2A) (io), 17 VCC (power), 18 GND (power), 19 PC0 (PCINT16/SCL) (io), 20 PC1 (PCINT17/SDA) (io), 21 PC2 (PCINT18/TCK) (io), 22 PC3 (PCINT19/TMS) (io), 23 PC4 (TDO/PCINT20) (io), 24 PC5 (TDI/PCINT21) (io), 25 PC6 (TOSC1/PCINT22) (io), 26 PC7 (TOSC2/PCINT23) (io), 27 AVCC (power), 28 GND (power), 29 AREF (power), 30 PA7 (ADC7/PCINT7) (io), 31 PA6 (ADC6/PCINT6) (io), 32 PA5 (ADC5/PCINT5) (io), 33 PA4 (ADC4/PCINT4) (io), 34 PA3 (ADC3/PCINT3) (io), 35 PA2 (ADC2/PCINT2) (io), 36 PA1 (ADC1/PCINT1) (io), 37 PA0 (ADC0/PCINT0) (io), 38 VCC (power), 39 GND (power), 40 PB0 (XCK0/T0/PCINT8) (io), 41 PB1 (T1/CLKO/PCINT9) (io), 42 PB2 (AIN0/INT2/PCINT10) (io), 43 PB3 (AIN1/OC0A/PCINT11) (io), 44 PB4 (~{SS}/OC0B/PCINT12) (io)

## ATmega324A-CU
designator U?
8-bit AVR Microcontroller, 32KB Flash, 1KB EEPROM, 2KB SRAM, 49-pin VFBGA, Industrial Grade (-40°C to 85°C); DatasheetVersion: revC, Jun-2011; PackageVersion: revA, Mar-2008; PackageReference: 49C2; PackageDescription: 49-Ball Very Thin Fine-Pitch BGA, 5 x 5 x 1 mm Body, 0.65 mm Pitch (VFBGA); ComponentLink1Description: Manufacturer URL; ComponentLink1URL: http://www.atmel.com/; ComponentLink2Description: ATmega164A/164PA/324A/324PA/644A/644PA/1284/1284P Datasheet; ComponentLink2URL: http://www.atmel.com/dyn/resources/prod_documents/doc8272.pdf; ComponentLink3Description: ATmega164A/164PA/324A/324PA/644A/644PA/1284/1284P Summary; ComponentLink3URL: http://www.atmel.com/dyn/resources/prod_documents/8272S.pdf
footprint 49C2 (BGA, 49-Leads, Body 5x5mm, Pitch 0.65mm)
pins: A1 GND (power), A2 PB4 (~{SS}/OC0B/PCINT12) (io), A3 PB2 (AIN0/INT2/PCINT10) (io), A4 GND (power), A5 VCC (power), A6 PA2 (ADC2/PCINT2) (io), A7 GND (power), B1 PB6 (PCINT14/OC3A/MISO) (io), B2 PB5 (PCINT13/ICP3/MOSI) (io), B3 PB3 (AIN1/OC0A/PCINT11) (io), B4 PB0 (XCK0/T0/PCINT8) (io), B5 PA0 (ADC0/PCINT0) (io), B6 PA3 (ADC3/PCINT3) (io), B7 PA5 (ADC5/PCINT5) (io), C1 VCC (power), C2 ~{RESET} (in), C3 PB7 (PCINT15/OC3B/SCK) (io), C4 PB1 (T1/CLKO/PCINT9) (io), C5 PA1 (ADC1/PCINT1) (io), C6 PA6 (ADC6/PCINT6) (io), C7 AREF (power), D1 GND (power), D2 XTAL2 (out), D3 PD0 (PCINT24/RXD0/T3) (io), D4 GND (power), D5 PA4 (ADC4/PCINT4) (io), D6 PA7 (ADC7/PCINT7) (io), D7 GND (power), E1 XTAL1 (in), E2 PD1 (PCINT25/TXD0) (io), E3 PD5 (PCINT29/OC1A) (io), E4 PD7 (PCINT31/OC2A) (io), E5 PC5 (TDI/PCINT21) (io), E6 PC7 (TOSC2/PCINT23) (io), E7 AVCC (power), F1 PD2 (PCINT/RXD1/26/INT0) (io), F2 PD3 (PCINT/TXD1/27/INT1) (io), F3 PD6 (PCINT30/OC2B/ICP) (io), F4 PC0 (PCINT16/SCL) (io), F5 PC2 (PCINT18/TCK) (io), F6 PC4 (TDO/PCINT20) (io), F7 PC6 (TOSC1/PCINT22) (io), G1 GND (power), G2 PD4 (PCINT28/XCK1/OC1B) (io), G3 VCC (power), G4 GND (power), G5 PC1 (PCINT17/SDA) (io), G6 PC3 (PCINT19/TMS) (io), G7 GND (power)

## ATmega324A-CUR
designator U?
8-bit AVR Microcontroller, 32KB Flash, 1KB EEPROM, 2KB SRAM, 49-pin VFBGA, Industrial Grade (-40°C to 85°C), Reel; DatasheetVersion: revC, Jun-2011; PackageVersion: revA, Mar-2008; PackageReference: 49C2; PackageDescription: 49-Ball Very Thin Fine-Pitch BGA, 5 x 5 x 1 mm Body, 0.65 mm Pitch (VFBGA); ComponentLink1Description: Manufacturer URL; ComponentLink1URL: http://www.atmel.com/; ComponentLink2Description: ATmega164A/164PA/324A/324PA/644A/644PA/1284/1284P Datasheet; ComponentLink2URL: http://www.atmel.com/dyn/resources/prod_documents/doc8272.pdf; ComponentLink3Description: ATmega164A/164PA/324A/324PA/644A/644PA/1284/1284P Summary; ComponentLink3URL: http://www.atmel.com/dyn/resources/prod_documents/8272S.pdf
footprint 49C2 (BGA, 49-Leads, Body 5x5mm, Pitch 0.65mm)
pins: A1 GND (power), A2 PB4 (~{SS}/OC0B/PCINT12) (io), A3 PB2 (AIN0/INT2/PCINT10) (io), A4 GND (power), A5 VCC (power), A6 PA2 (ADC2/PCINT2) (io), A7 GND (power), B1 PB6 (PCINT14/OC3A/MISO) (io), B2 PB5 (PCINT13/ICP3/MOSI) (io), B3 PB3 (AIN1/OC0A/PCINT11) (io), B4 PB0 (XCK0/T0/PCINT8) (io), B5 PA0 (ADC0/PCINT0) (io), B6 PA3 (ADC3/PCINT3) (io), B7 PA5 (ADC5/PCINT5) (io), C1 VCC (power), C2 ~{RESET} (in), C3 PB7 (PCINT15/OC3B/SCK) (io), C4 PB1 (T1/CLKO/PCINT9) (io), C5 PA1 (ADC1/PCINT1) (io), C6 PA6 (ADC6/PCINT6) (io), C7 AREF (power), D1 GND (power), D2 XTAL2 (out), D3 PD0 (PCINT24/RXD0/T3) (io), D4 GND (power), D5 PA4 (ADC4/PCINT4) (io), D6 PA7 (ADC7/PCINT7) (io), D7 GND (power), E1 XTAL1 (in), E2 PD1 (PCINT25/TXD0) (io), E3 PD5 (PCINT29/OC1A) (io), E4 PD7 (PCINT31/OC2A) (io), E5 PC5 (TDI/PCINT21) (io), E6 PC7 (TOSC2/PCINT23) (io), E7 AVCC (power), F1 PD2 (PCINT/RXD1/26/INT0) (io), F2 PD3 (PCINT/TXD1/27/INT1) (io), F3 PD6 (PCINT30/OC2B/ICP) (io), F4 PC0 (PCINT16/SCL) (io), F5 PC2 (PCINT18/TCK) (io), F6 PC4 (TDO/PCINT20) (io), F7 PC6 (TOSC1/PCINT22) (io), G1 GND (power), G2 PD4 (PCINT28/XCK1/OC1B) (io), G3 VCC (power), G4 GND (power), G5 PC1 (PCINT17/SDA) (io), G6 PC3 (PCINT19/TMS) (io), G7 GND (power)

## ATmega324A-MCH
designator U?
8-bit AVR Microcontroller, 32KB Flash, 1KB EEPROM, 2KB SRAM, 44-pin DRQFN, Industrial Grade (-40°C to 85°C); DatasheetVersion: revC, Jun-2011; PackageVersion: revA, Sep-2007; PackageReference: 44MC; PackageDescription: 44-Pin Quad Flat No-Lead (2-Row Staggered), 5 x 5 x 1 mm Body, 2.6 x 2.6 mm Exposed Pad; ComponentLink1Description: Manufacturer URL; ComponentLink1URL: http://www.atmel.com/; ComponentLink2Description: ATmega164A/164PA/324A/324PA/644A/644PA/1284/1284P Datasheet; ComponentLink2URL: http://www.atmel.com/dyn/resources/prod_documents/doc8272.pdf; ComponentLink3Description: ATmega164A/164PA/324A/324PA/644A/644PA/1284/1284P Summary; ComponentLink3URL: http://www.atmel.com/dyn/resources/prod_documents/8272S.pdf
footprint 44MC (QFN, 44-Leads, 2-Rows Staggered, Body 5x5 mm, Pitch 0.7mm, Thermal Pad 2.6x2.6mm)
pins: 45 DAP (power), A1 PB5 (PCINT13/ICP3/MOSI) (io), A2 PB7 (PCINT15/OCB3/SCK) (io), A3 VCC (power), A4 XTAL2 (out), A5 PD0 (PCINT24/RXD0/T3) (io), A6 PD2 (PCINT/RXD1/26/INT0) (io), A7 PD3 (PCINT/TXD1/27/INT1) (io), A8 PD5 (PCINT29/OC1A) (io), A9 PD7 (PCINT31/OC2A) (io), A10 GND (power), A11 PC1 (PCINT17/SDA) (io), A12 PC3 (PCINT19/TMS) (io), A13 PC4 (TDO/PCINT20) (io), A14 PC6 (TOSC1/PCINT22) (io), A15 AVCC (power), A16 AREF (power), A17 PA6 (ADC6/PCINT6) (io), A18 PA4 (ADC4/PCINT4) (io), A19 PA3 (ADC3/PCINT3) (io), A20 PA1 (ADC1/PCINT1) (io), A21 VCC (power), A22 PB0 (XCK0/T0/PCINT8) (io), A23 PB2 (AIN0/INT2/PCINT10) (io), A24 PB4 (~{SS}/OC0B/PCINT12) (io), B1 PB6 (PCINT14/OC3A/MISO) (io), B2 ~{RESET} (in), B3 GND (power), B4 XTAL1 (in), B5 PD1 (PCINT25/TXD0) (io), B6 PD4 (PCINT28/XCK1/OC1B) (io), B7 PD6 (PCINT30/OC2B/ICP) (io), B8 VCC (power), B9 PC0 (PCINT16/SCL) (io), B10 PC2 (PCINT18/TCK) (io), B11 PC5 (TDI/PCINT21) (io), B12 PC7 (TOSC2/PCINT23) (io), B13 GND (power), B14 PA7 (ADC7/PCINT7) (io), B15 PA5 (ADC5/PCINT5) (io), B16 PA2 (ADC2/PCINT2) (io), B17 PA0 (ADC0/PCINT0) (io), B18 GND (power), B19 PB1 (T1/CLKO/PCINT9) (io), B20 PB3 (AIN1/OC0A/PCINT11) (io)

## ATmega324A-MCHR
designator U?
8-bit AVR Microcontroller, 32KB Flash, 1KB EEPROM, 2KB SRAM, 44-pin DRQFN, Industrial Grade (-40°C to 85°C), Reel; DatasheetVersion: revC, Jun-2011; PackageVersion: revA, Sep-2007; PackageReference: 44MC; PackageDescription: 44-Pin Quad Flat No-Lead (2-Row Staggered), 5 x 5 x 1 mm Body, 2.6 x 2.6 mm Exposed Pad; ComponentLink1Description: Manufacturer URL; ComponentLink1URL: http://www.atmel.com/; ComponentLink2Description: ATmega164A/164PA/324A/324PA/644A/644PA/1284/1284P Datasheet; ComponentLink2URL: http://www.atmel.com/dyn/resources/prod_documents/doc8272.pdf; ComponentLink3Description: ATmega164A/164PA/324A/324PA/644A/644PA/1284/1284P Summary; ComponentLink3URL: http://www.atmel.com/dyn/resources/prod_documents/8272S.pdf
footprint 44MC (QFN, 44-Leads, 2-Rows Staggered, Body 5x5 mm, Pitch 0.7mm, Thermal Pad 2.6x2.6mm)
pins: 45 DAP (power), A1 PB5 (PCINT13/ICP3/MOSI) (io), A2 PB7 (PCINT15/OCB3/SCK) (io), A3 VCC (power), A4 XTAL2 (out), A5 PD0 (PCINT24/RXD0/T3) (io), A6 PD2 (PCINT/RXD1/26/INT0) (io), A7 PD3 (PCINT/TXD1/27/INT1) (io), A8 PD5 (PCINT29/OC1A) (io), A9 PD7 (PCINT31/OC2A) (io), A10 GND (power), A11 PC1 (PCINT17/SDA) (io), A12 PC3 (PCINT19/TMS) (io), A13 PC4 (TDO/PCINT20) (io), A14 PC6 (TOSC1/PCINT22) (io), A15 AVCC (power), A16 AREF (power), A17 PA6 (ADC6/PCINT6) (io), A18 PA4 (ADC4/PCINT4) (io), A19 PA3 (ADC3/PCINT3) (io), A20 PA1 (ADC1/PCINT1) (io), A21 VCC (power), A22 PB0 (XCK0/T0/PCINT8) (io), A23 PB2 (AIN0/INT2/PCINT10) (io), A24 PB4 (~{SS}/OC0B/PCINT12) (io), B1 PB6 (PCINT14/OC3A/MISO) (io), B2 ~{RESET} (in), B3 GND (power), B4 XTAL1 (in), B5 PD1 (PCINT25/TXD0) (io), B6 PD4 (PCINT28/XCK1/OC1B) (io), B7 PD6 (PCINT30/OC2B/ICP) (io), B8 VCC (power), B9 PC0 (PCINT16/SCL) (io), B10 PC2 (PCINT18/TCK) (io), B11 PC5 (TDI/PCINT21) (io), B12 PC7 (TOSC2/PCINT23) (io), B13 GND (power), B14 PA7 (ADC7/PCINT7) (io), B15 PA5 (ADC5/PCINT5) (io), B16 PA2 (ADC2/PCINT2) (io), B17 PA0 (ADC0/PCINT0) (io), B18 GND (power), B19 PB1 (T1/CLKO/PCINT9) (io), B20 PB3 (AIN1/OC0A/PCINT11) (io)

## ATmega324A-MU
designator U?
8-bit AVR Microcontroller, 32KB Flash, 1KB EEPROM, 2KB SRAM, 44-pin VQFN, Industrial Grade (-40°C to 85°C); DatasheetVersion: revC, Jun-2011; PackageVersion: revH, Sep-2008; PackageReference: 44M1; PackageDescription: 44-Pin Plastic Very Thin Quad Flat No-Lead Package, 7 x 7 x 1.0 mm Body, 0.5 mm Pitch (VQFN), 5.2 mm Exposed Pad; Code_JEDEC: MO-220-VKKD-1; ComponentLink1Description: Manufacturer URL; ComponentLink1URL: http://www.atmel.com/; ComponentLink2Description: ATmega164A/164PA/324A/324PA/644A/644PA/1284/1284P Datasheet; ComponentLink2URL: http://www.atmel.com/dyn/resources/prod_documents/doc8272.pdf; ComponentLink3Description: ATmega164A/164PA/324A/324PA/644A/644PA/1284/1284P Summary; ComponentLink3URL: http://www.atmel.com/dyn/resources/prod_documents/8272S.pdf
footprint 44M1_N (QFN, 44-Leads, Body 7x7mm, Pitch 0.5mm, Thermal Pad 5.3x5.3mm, IPC Medium Density)
footprint 44M1_L (QFN, 44-Leads, Body 7x7mm, Pitch 0.5mm, Thermal Pad 5.3x5.3mm, IPC High Density)
footprint 44M1_M (QFN, 44-Leads, Body 7x7mm, Pitch 0.5mm, Thermal Pad 5.3x5.3mm, IPC Low Density)
pins: 1 PB5 (PCINT13/ICP3/MOSI) (io), 2 PB6 (PCINT14/OC3A/MISO) (io), 3 PB7 (PCINT15/OC3B/SCK) (io), 4 ~{RESET} (in), 5 VCC (power), 6 GND (power), 7 XTAL2, 8 XTAL1, 9 PD0 (PCINT24/RXD0/T3) (io), 10 PD1 (PCINT25/TXD0) (io), 11 PD2 (PCINT/RXD1/26/INT0) (io), 12 PD3 (PCINT/TXD1/27/INT1) (io), 13 PD4 (PCINT28/XCK1/OC1B) (io), 14 PD5 (PCINT29/OC1A) (io), 15 PD6 (PCINT30/OC2B/ICP) (io), 16 PD7 (PCINT31/OC2A) (io), 17 VCC (power), 18 GND (power), 19 PC0 (PCINT16/SCL) (io), 20 PC1 (PCINT17/SDA) (io), 21 PC2 (PCINT18/TCK) (io), 22 PC3 (PCINT19/TMS) (io), 23 PC4 (TDO/PCINT20) (io), 24 PC5 (TDI/PCINT21) (io), 25 PC6 (TOSC1/PCINT22) (io), 26 PC7 (TOSC2/PCINT23) (io), 27 AVCC (power), 28 GND (power), 29 AREF (power), 30 PA7 (ADC7/PCINT7) (io), 31 PA6 (ADC6/PCINT6) (io), 32 PA5 (ADC5/PCINT5) (io), 33 PA4 (ADC4/PCINT4) (io), 34 PA3 (ADC3/PCINT3) (io), 35 PA2 (ADC2/PCINT2) (io), 36 PA1 (ADC1/PCINT1) (io), 37 PA0 (ADC0/PCINT0) (io), 38 VCC (power), 39 GND (power), 40 PB0 (XCK0/T0/PCINT8) (io), 41 PB1 (T1/CLKO/PCINT9) (io), 42 PB2 (AIN0/INT2/PCINT10) (io), 43 PB3 (AIN1/OC0A/PCINT11) (io), 44 PB4 (~{SS}/OC0B/PCINT12) (io), 45 DAP (power)

## ATmega324A-MUR
designator U?
8-bit AVR Microcontroller, 32KB Flash, 1KB EEPROM, 2KB SRAM, 44-pin VQFN, Industrial Grade (-40°C to 85°C), Reel; DatasheetVersion: revC, Jun-2011; PackageVersion: revH, Sep-2008; PackageReference: 44M1; PackageDescription: 44-Pin Plastic Very Thin Quad Flat No-Lead Package, 7 x 7 x 1.0 mm Body, 0.5 mm Pitch (VQFN), 5.2 mm Exposed Pad; Code_JEDEC: MO-220-VKKD-1; ComponentLink1Description: Manufacturer URL; ComponentLink1URL: http://www.atmel.com/; ComponentLink2Description: ATmega164A/164PA/324A/324PA/644A/644PA/1284/1284P Datasheet; ComponentLink2URL: http://www.atmel.com/dyn/resources/prod_documents/doc8272.pdf; ComponentLink3Description: ATmega164A/164PA/324A/324PA/644A/644PA/1284/1284P Summary; ComponentLink3URL: http://www.atmel.com/dyn/resources/prod_documents/8272S.pdf
footprint 44M1_N (QFN, 44-Leads, Body 7x7mm, Pitch 0.5mm, Thermal Pad 5.3x5.3mm, IPC Medium Density)
footprint 44M1_L (QFN, 44-Leads, Body 7x7mm, Pitch 0.5mm, Thermal Pad 5.3x5.3mm, IPC High Density)
footprint 44M1_M (QFN, 44-Leads, Body 7x7mm, Pitch 0.5mm, Thermal Pad 5.3x5.3mm, IPC Low Density)
pins: 1 PB5 (PCINT13/ICP3/MOSI) (io), 2 PB6 (PCINT14/OC3A/MISO) (io), 3 PB7 (PCINT15/OC3B/SCK) (io), 4 ~{RESET} (in), 5 VCC (power), 6 GND (power), 7 XTAL2, 8 XTAL1, 9 PD0 (PCINT24/RXD0/T3) (io), 10 PD1 (PCINT25/TXD0) (io), 11 PD2 (PCINT/RXD1/26/INT0) (io), 12 PD3 (PCINT/TXD1/27/INT1) (io), 13 PD4 (PCINT28/XCK1/OC1B) (io), 14 PD5 (PCINT29/OC1A) (io), 15 PD6 (PCINT30/OC2B/ICP) (io), 16 PD7 (PCINT31/OC2A) (io), 17 VCC (power), 18 GND (power), 19 PC0 (PCINT16/SCL) (io), 20 PC1 (PCINT17/SDA) (io), 21 PC2 (PCINT18/TCK) (io), 22 PC3 (PCINT19/TMS) (io), 23 PC4 (TDO/PCINT20) (io), 24 PC5 (TDI/PCINT21) (io), 25 PC6 (TOSC1/PCINT22) (io), 26 PC7 (TOSC2/PCINT23) (io), 27 AVCC (power), 28 GND (power), 29 AREF (power), 30 PA7 (ADC7/PCINT7) (io), 31 PA6 (ADC6/PCINT6) (io), 32 PA5 (ADC5/PCINT5) (io), 33 PA4 (ADC4/PCINT4) (io), 34 PA3 (ADC3/PCINT3) (io), 35 PA2 (ADC2/PCINT2) (io), 36 PA1 (ADC1/PCINT1) (io), 37 PA0 (ADC0/PCINT0) (io), 38 VCC (power), 39 GND (power), 40 PB0 (XCK0/T0/PCINT8) (io), 41 PB1 (T1/CLKO/PCINT9) (io), 42 PB2 (AIN0/INT2/PCINT10) (io), 43 PB3 (AIN1/OC0A/PCINT11) (io), 44 PB4 (~{SS}/OC0B/PCINT12) (io), 45 DAP (power)

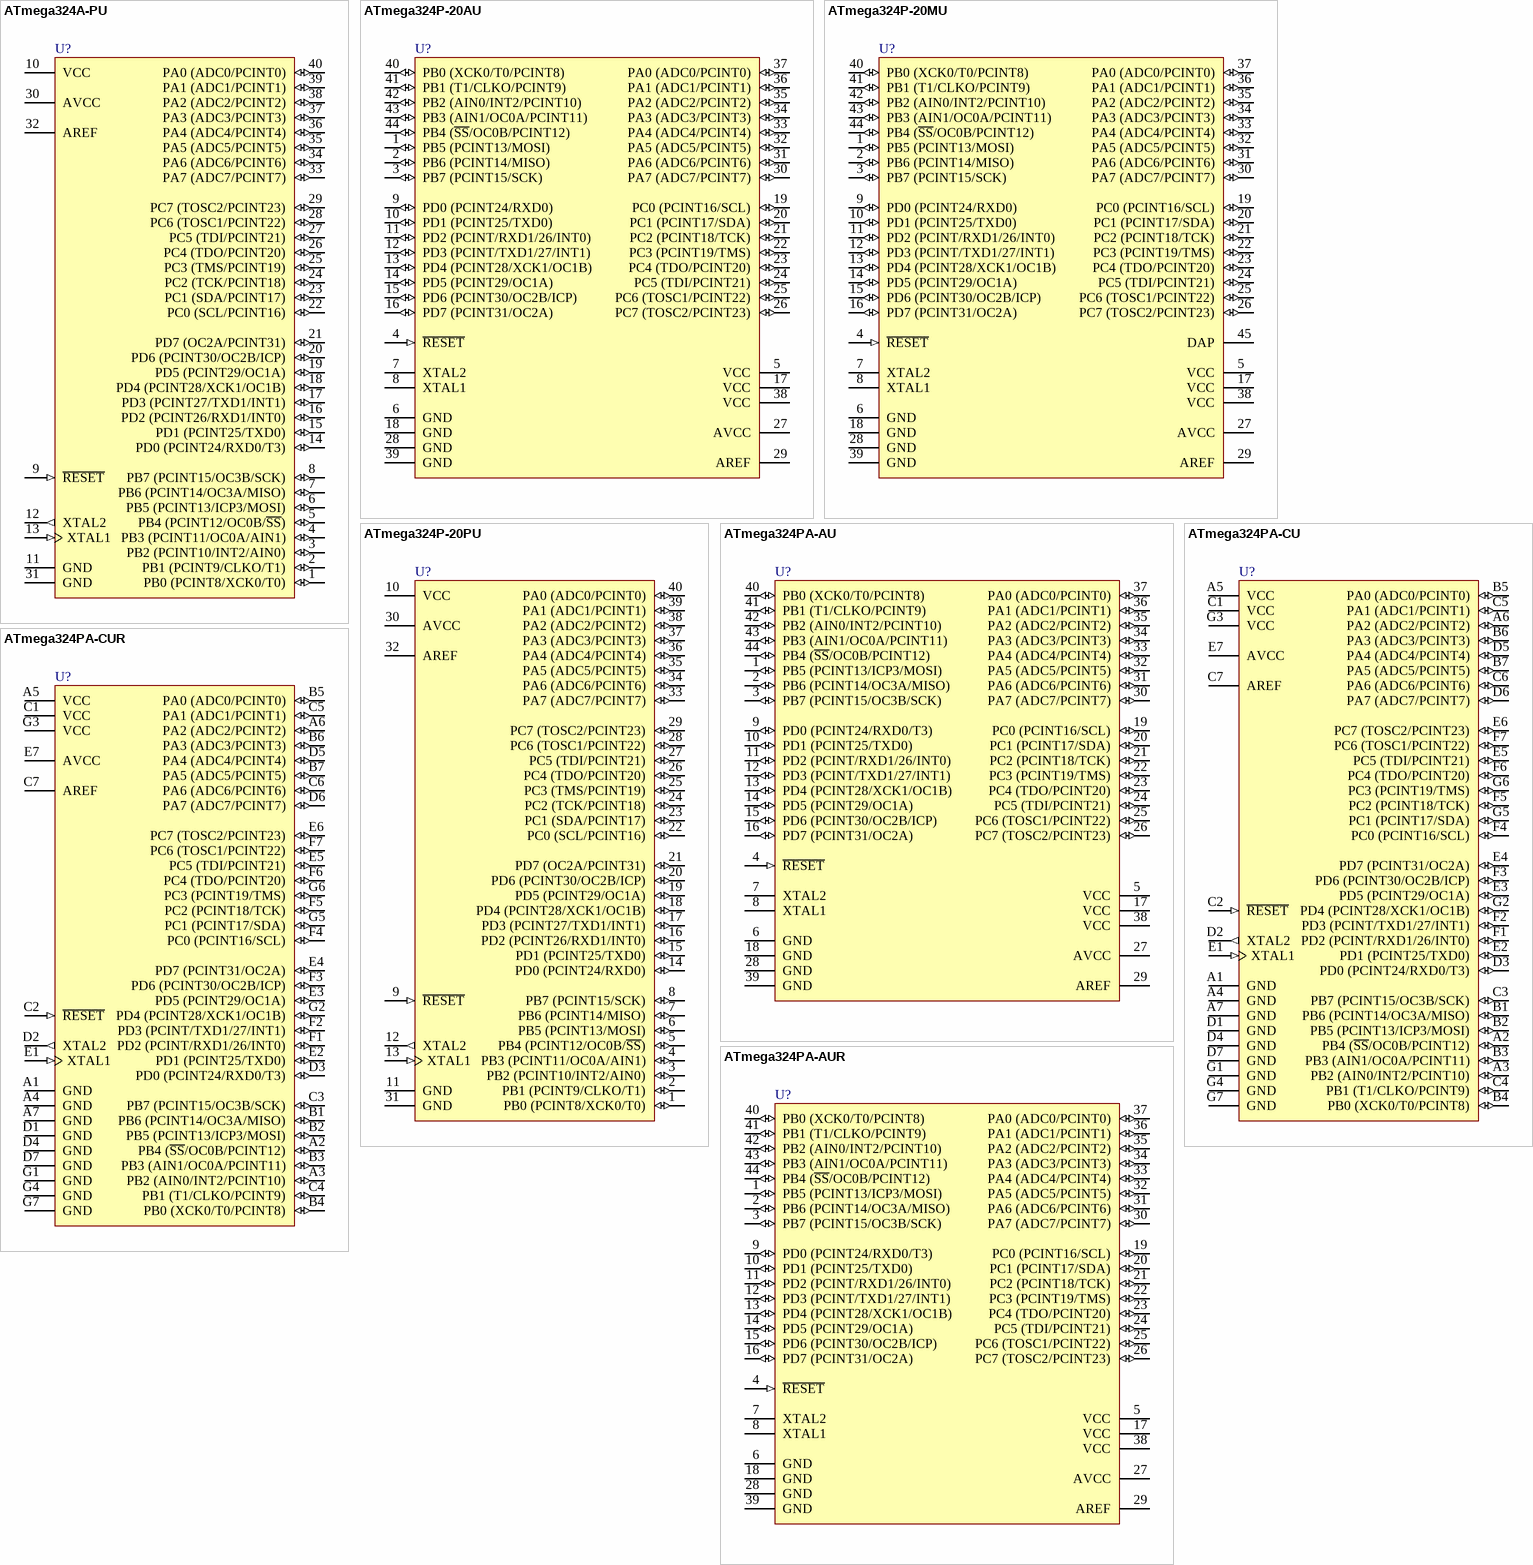
[diagram p37: symbols ATmega324A-PU to ATmega324PA-CUR]

## ATmega324A-PU
designator U?
8-bit AVR Microcontroller, 32KB Flash, 1KB EEPROM, 2KB SRAM, 40-pin PDIP, Industrial Grade (-40°C to 85°C); DatasheetVersion: revC, Jun-2011; PackageVersion: revB, Sep-2001; PackageReference: 40P6; PackageDescription: 40-lead (0.600"/15.24mm Wide) Plastic Dual Inline Package (PDIP); Code_JEDEC: MS-011-AC; ComponentLink1Description: Manufacturer URL; ComponentLink1URL: http://www.atmel.com/; ComponentLink2Description: ATmega164A/164PA/324A/324PA/644A/644PA/1284/1284P Datasheet; ComponentLink2URL: http://www.atmel.com/dyn/resources/prod_documents/doc8272.pdf; ComponentLink3Description: ATmega164A/164PA/324A/324PA/644A/644PA/1284/1284P Summary; ComponentLink3URL: http://www.atmel.com/dyn/resources/prod_documents/8272S.pdf
footprint 40P6 (DIP, 40-Leads, Row Spacing 15.24mm, Pitch 2.54mm, Body 52.2x13.95mm)
pins: 1 PB0 (PCINT8/XCK0/T0) (io), 2 PB1 (PCINT9/CLKO/T1) (io), 3 PB2 (PCINT10/INT2/AIN0) (io), 4 PB3 (PCINT11/OC0A/AIN1) (io), 5 PB4 (PCINT12/OC0B/~{SS}) (io), 6 PB5 (PCINT13/ICP3/MOSI) (io), 7 PB6 (PCINT14/OC3A/MISO) (io), 8 PB7 (PCINT15/OC3B/SCK) (io), 9 ~{RESET} (in), 10 VCC (power), 11 GND (power), 12 XTAL2 (out), 13 XTAL1 (in), 14 PD0 (PCINT24/RXD0/T3) (io), 15 PD1 (PCINT25/TXD0) (io), 16 PD2 (PCINT26/RXD1/INT0) (io), 17 PD3 (PCINT27/TXD1/INT1) (io), 18 PD4 (PCINT28/XCK1/OC1B) (io), 19 PD5 (PCINT29/OC1A) (io), 20 PD6 (PCINT30/OC2B/ICP) (io), 21 PD7 (OC2A/PCINT31) (io), 22 PC0 (SCL/PCINT16) (io), 23 PC1 (SDA/PCINT17) (io), 24 PC2 (TCK/PCINT18) (io), 25 PC3 (TMS/PCINT19) (io), 26 PC4 (TDO/PCINT20) (io), 27 PC5 (TDI/PCINT21) (io), 28 PC6 (TOSC1/PCINT22) (io), 29 PC7 (TOSC2/PCINT23) (io), 30 AVCC (power), 31 GND (power), 32 AREF (power), 33 PA7 (ADC7/PCINT7) (io), 34 PA6 (ADC6/PCINT6) (io), 35 PA5 (ADC5/PCINT5) (io), 36 PA4 (ADC4/PCINT4) (io), 37 PA3 (ADC3/PCINT3) (io), 38 PA2 (ADC2/PCINT2) (io), 39 PA1 (ADC1/PCINT1) (io), 40 PA0 (ADC0/PCINT0) (io)

## ATmega324P-20AU
designator U?
8-bit AVR Microcontroller, 2.7-5.5V, 20MHz, 32KB Flash, 1KB EEPROM, 2KB SRAM, 44-pin TQFP, Industrial Grade (-40°C to 85°C); DatasheetVersion: revO, Jun-2010; PackageVersion: revC, Oct-2010; PackageReference: 44A; PackageDescription: 44-Pin Plastic Thin Profile Quad Flat Pack, 10 x 10 x 1.0 mm Body, 0.8 mm Pitch (TQFP); Code_JEDEC: MS-026-ACB; ComponentLink1Description: Manufacturer URL; ComponentLink1URL: http://www.atmel.com/; ComponentLink2Description: ATmega164P/324P/644P Datasheet; ComponentLink2URL: http://www.atmel.com/dyn/resources/prod_documents/doc8011.pdf; ComponentLink3Description: ATmega164P/324P/644P Summary; ComponentLink3URL: http://www.atmel.com/dyn/resources/prod_documents/8011S.pdf
footprint 44A_N (Thin QFP, 44-Leads, Body 10x10mm, Pitch 0.8mm, IPC Medium Density)
footprint 44A_L (Thin QFP, 44-Leads, Body 10x10mm, Pitch 0.8mm, IPC High Density)
footprint 44A_M (Thin QFP, 44-Leads, Body 10x10mm, Pitch 0.8mm, IPC Low Density)
pins: 1 PB5 (PCINT13/MOSI) (io), 2 PB6 (PCINT14/MISO) (io), 3 PB7 (PCINT15/SCK) (io), 4 ~{RESET} (in), 5 VCC (power), 6 GND (power), 7 XTAL2, 8 XTAL1, 9 PD0 (PCINT24/RXD0) (io), 10 PD1 (PCINT25/TXD0) (io), 11 PD2 (PCINT/RXD1/26/INT0) (io), 12 PD3 (PCINT/TXD1/27/INT1) (io), 13 PD4 (PCINT28/XCK1/OC1B) (io), 14 PD5 (PCINT29/OC1A) (io), 15 PD6 (PCINT30/OC2B/ICP) (io), 16 PD7 (PCINT31/OC2A) (io), 17 VCC (power), 18 GND (power), 19 PC0 (PCINT16/SCL) (io), 20 PC1 (PCINT17/SDA) (io), 21 PC2 (PCINT18/TCK) (io), 22 PC3 (PCINT19/TMS) (io), 23 PC4 (TDO/PCINT20) (io), 24 PC5 (TDI/PCINT21) (io), 25 PC6 (TOSC1/PCINT22) (io), 26 PC7 (TOSC2/PCINT23) (io), 27 AVCC (power), 28 GND (power), 29 AREF (power), 30 PA7 (ADC7/PCINT7) (io), 31 PA6 (ADC6/PCINT6) (io), 32 PA5 (ADC5/PCINT5) (io), 33 PA4 (ADC4/PCINT4) (io), 34 PA3 (ADC3/PCINT3) (io), 35 PA2 (ADC2/PCINT2) (io), 36 PA1 (ADC1/PCINT1) (io), 37 PA0 (ADC0/PCINT0) (io), 38 VCC (power), 39 GND (power), 40 PB0 (XCK0/T0/PCINT8) (io), 41 PB1 (T1/CLKO/PCINT9) (io), 42 PB2 (AIN0/INT2/PCINT10) (io), 43 PB3 (AIN1/OC0A/PCINT11) (io), 44 PB4 (~{SS}/OC0B/PCINT12) (io)

## ATmega324P-20MU
designator U?
8-bit AVR Microcontroller, 2.7-5.5V, 20MHz, 32KB Flash, 1KB EEPROM, 2KB SRAM, 44-pin VQFN, Industrial Grade (-40°C to 85°C); DatasheetVersion: revO, Jun-2010; PackageVersion: revH, Sep-2008; PackageReference: 44M1; PackageDescription: 44-Pin Plastic Very Thin Quad Flat No-Lead Package, 7 x 7 x 1.0 mm Body, 0.5 mm Pitch (VQFN), 5.2 mm Exposed Pad; Code_JEDEC: MO-220-VKKD-1; ComponentLink1Description: Manufacturer URL; ComponentLink1URL: http://www.atmel.com/; ComponentLink2Description: ATmega164P/324P/644P Datasheet; ComponentLink2URL: http://www.atmel.com/dyn/resources/prod_documents/doc8011.pdf; ComponentLink3Description: ATmega164P/324P/644P Summary; ComponentLink3URL: http://www.atmel.com/dyn/resources/prod_documents/8011S.pdf
footprint 44M1_N (QFN, 44-Leads, Body 7x7mm, Pitch 0.5mm, Thermal Pad 5.3x5.3mm, IPC Medium Density)
footprint 44M1_L (QFN, 44-Leads, Body 7x7mm, Pitch 0.5mm, Thermal Pad 5.3x5.3mm, IPC High Density)
footprint 44M1_M (QFN, 44-Leads, Body 7x7mm, Pitch 0.5mm, Thermal Pad 5.3x5.3mm, IPC Low Density)
pins: 1 PB5 (PCINT13/MOSI) (io), 2 PB6 (PCINT14/MISO) (io), 3 PB7 (PCINT15/SCK) (io), 4 ~{RESET} (in), 5 VCC (power), 6 GND (power), 7 XTAL2, 8 XTAL1, 9 PD0 (PCINT24/RXD0) (io), 10 PD1 (PCINT25/TXD0) (io), 11 PD2 (PCINT/RXD1/26/INT0) (io), 12 PD3 (PCINT/TXD1/27/INT1) (io), 13 PD4 (PCINT28/XCK1/OC1B) (io), 14 PD5 (PCINT29/OC1A) (io), 15 PD6 (PCINT30/OC2B/ICP) (io), 16 PD7 (PCINT31/OC2A) (io), 17 VCC (power), 18 GND (power), 19 PC0 (PCINT16/SCL) (io), 20 PC1 (PCINT17/SDA) (io), 21 PC2 (PCINT18/TCK) (io), 22 PC3 (PCINT19/TMS) (io), 23 PC4 (TDO/PCINT20) (io), 24 PC5 (TDI/PCINT21) (io), 25 PC6 (TOSC1/PCINT22) (io), 26 PC7 (TOSC2/PCINT23) (io), 27 AVCC (power), 28 GND (power), 29 AREF, 30 PA7 (ADC7/PCINT7) (io), 31 PA6 (ADC6/PCINT6) (io), 32 PA5 (ADC5/PCINT5) (io), 33 PA4 (ADC4/PCINT4) (io), 34 PA3 (ADC3/PCINT3) (io), 35 PA2 (ADC2/PCINT2) (io), 36 PA1 (ADC1/PCINT1) (io), 37 PA0 (ADC0/PCINT0) (io), 38 VCC (power), 39 GND (power), 40 PB0 (XCK0/T0/PCINT8) (io), 41 PB1 (T1/CLKO/PCINT9) (io), 42 PB2 (AIN0/INT2/PCINT10) (io), 43 PB3 (AIN1/OC0A/PCINT11) (io), 44 PB4 (~{SS}/OC0B/PCINT12) (io), 45 DAP (power)

## ATmega324P-20PU
designator U?
8-bit AVR Microcontroller, 2.7-5.5V, 20MHz, 32KB Flash, 1KB EEPROM, 2KB SRAM, 40-pin PDIP, Industrial Grade (-40°C to 85°C); DatasheetVersion: revO, Jun-2010; PackageVersion: revB, Sep-2001; PackageReference: 40P6; PackageDescription: 40-lead (0.600"/15.24mm Wide) Plastic Dual Inline Package (PDIP); Code_JEDEC: MS-011-AC; ComponentLink1Description: Manufacturer URL; ComponentLink1URL: http://www.atmel.com/; ComponentLink2Description: ATmega164P/324P/644P Datasheet; ComponentLink2URL: http://www.atmel.com/dyn/resources/prod_documents/doc8011.pdf; ComponentLink3Description: ATmega164P/324P/644P Summary; ComponentLink3URL: http://www.atmel.com/dyn/resources/prod_documents/8011S.pdf
footprint 40P6 (DIP, 40-Leads, Row Spacing 15.24mm, Pitch 2.54mm, Body 52.2x13.95mm)
pins: 1 PB0 (PCINT8/XCK0/T0) (io), 2 PB1 (PCINT9/CLKO/T1) (io), 3 PB2 (PCINT10/INT2/AIN0) (io), 4 PB3 (PCINT11/OC0A/AIN1) (io), 5 PB4 (PCINT12/OC0B/~{SS}) (io), 6 PB5 (PCINT13/MOSI) (io), 7 PB6 (PCINT14/MISO) (io), 8 PB7 (PCINT15/SCK) (io), 9 ~{RESET} (in), 10 VCC (power), 11 GND (power), 12 XTAL2 (out), 13 XTAL1 (in), 14 PD0 (PCINT24/RXD0) (io), 15 PD1 (PCINT25/TXD0) (io), 16 PD2 (PCINT26/RXD1/INT0) (io), 17 PD3 (PCINT27/TXD1/INT1) (io), 18 PD4 (PCINT28/XCK1/OC1B) (io), 19 PD5 (PCINT29/OC1A) (io), 20 PD6 (PCINT30/OC2B/ICP) (io), 21 PD7 (OC2A/PCINT31) (io), 22 PC0 (SCL/PCINT16) (io), 23 PC1 (SDA/PCINT17) (io), 24 PC2 (TCK/PCINT18) (io), 25 PC3 (TMS/PCINT19) (io), 26 PC4 (TDO/PCINT20) (io), 27 PC5 (TDI/PCINT21) (io), 28 PC6 (TOSC1/PCINT22) (io), 29 PC7 (TOSC2/PCINT23) (io), 30 AVCC (power), 31 GND (power), 32 AREF (power), 33 PA7 (ADC7/PCINT7) (io), 34 PA6 (ADC6/PCINT6) (io), 35 PA5 (ADC5/PCINT5) (io), 36 PA4 (ADC4/PCINT4) (io), 37 PA3 (ADC3/PCINT3) (io), 38 PA2 (ADC2/PCINT2) (io), 39 PA1 (ADC1/PCINT1) (io), 40 PA0 (ADC0/PCINT0) (io)

## ATmega324PA-AU
designator U?
8-bit AVR Microcontroller, 32KB Flash, 1KB EEPROM, 2KB SRAM, 44-pin TQFP, Industrial Grade (-40°C to 85°C); DatasheetVersion: revC, Jun-2011; PackageVersion: revC, Oct-2010; PackageReference: 44A; PackageDescription: 44-Pin Plastic Thin Profile Quad Flat Pack, 10 x 10 x 1.0 mm Body, 0.8 mm Pitch (TQFP); Code_JEDEC: MS-026-ACB; ComponentLink1Description: Manufacturer URL; ComponentLink1URL: http://www.atmel.com/; ComponentLink2Description: ATmega164A/164PA/324A/324PA/644A/644PA/1284/1284P Datasheet; ComponentLink2URL: http://www.atmel.com/dyn/resources/prod_documents/doc8272.pdf; ComponentLink3Description: ATmega164A/164PA/324A/324PA/644A/644PA/1284/1284P Summary; ComponentLink3URL: http://www.atmel.com/dyn/resources/prod_documents/8272S.pdf
footprint 44A_N (Thin QFP, 44-Leads, Body 10x10mm, Pitch 0.8mm, IPC Medium Density)
footprint 44A_L (Thin QFP, 44-Leads, Body 10x10mm, Pitch 0.8mm, IPC High Density)
footprint 44A_M (Thin QFP, 44-Leads, Body 10x10mm, Pitch 0.8mm, IPC Low Density)
pins: 1 PB5 (PCINT13/ICP3/MOSI) (io), 2 PB6 (PCINT14/OC3A/MISO) (io), 3 PB7 (PCINT15/OC3B/SCK) (io), 4 ~{RESET} (in), 5 VCC (power), 6 GND (power), 7 XTAL2, 8 XTAL1, 9 PD0 (PCINT24/RXD0/T3) (io), 10 PD1 (PCINT25/TXD0) (io), 11 PD2 (PCINT/RXD1/26/INT0) (io), 12 PD3 (PCINT/TXD1/27/INT1) (io), 13 PD4 (PCINT28/XCK1/OC1B) (io), 14 PD5 (PCINT29/OC1A) (io), 15 PD6 (PCINT30/OC2B/ICP) (io), 16 PD7 (PCINT31/OC2A) (io), 17 VCC (power), 18 GND (power), 19 PC0 (PCINT16/SCL) (io), 20 PC1 (PCINT17/SDA) (io), 21 PC2 (PCINT18/TCK) (io), 22 PC3 (PCINT19/TMS) (io), 23 PC4 (TDO/PCINT20) (io), 24 PC5 (TDI/PCINT21) (io), 25 PC6 (TOSC1/PCINT22) (io), 26 PC7 (TOSC2/PCINT23) (io), 27 AVCC (power), 28 GND (power), 29 AREF (power), 30 PA7 (ADC7/PCINT7) (io), 31 PA6 (ADC6/PCINT6) (io), 32 PA5 (ADC5/PCINT5) (io), 33 PA4 (ADC4/PCINT4) (io), 34 PA3 (ADC3/PCINT3) (io), 35 PA2 (ADC2/PCINT2) (io), 36 PA1 (ADC1/PCINT1) (io), 37 PA0 (ADC0/PCINT0) (io), 38 VCC (power), 39 GND (power), 40 PB0 (XCK0/T0/PCINT8) (io), 41 PB1 (T1/CLKO/PCINT9) (io), 42 PB2 (AIN0/INT2/PCINT10) (io), 43 PB3 (AIN1/OC0A/PCINT11) (io), 44 PB4 (~{SS}/OC0B/PCINT12) (io)

## ATmega324PA-AUR
designator U?
8-bit AVR Microcontroller, 32KB Flash, 1KB EEPROM, 2KB SRAM, 44-pin TQFP, Industrial Grade (-40°C to 85°C), Reel; DatasheetVersion: revC, Jun-2011; PackageVersion: revC, Oct-2010; PackageReference: 44A; PackageDescription: 44-Pin Plastic Thin Profile Quad Flat Pack, 10 x 10 x 1.0 mm Body, 0.8 mm Pitch (TQFP); Code_JEDEC: MS-026-ACB; ComponentLink1Description: Manufacturer URL; ComponentLink1URL: http://www.atmel.com/; ComponentLink2Description: ATmega164A/164PA/324A/324PA/644A/644PA/1284/1284P Datasheet; ComponentLink2URL: http://www.atmel.com/dyn/resources/prod_documents/doc8272.pdf; ComponentLink3Description: ATmega164A/164PA/324A/324PA/644A/644PA/1284/1284P Summary; ComponentLink3URL: http://www.atmel.com/dyn/resources/prod_documents/8272S.pdf
footprint 44A_N (Thin QFP, 44-Leads, Body 10x10mm, Pitch 0.8mm, IPC Medium Density)
footprint 44A_L (Thin QFP, 44-Leads, Body 10x10mm, Pitch 0.8mm, IPC High Density)
footprint 44A_M (Thin QFP, 44-Leads, Body 10x10mm, Pitch 0.8mm, IPC Low Density)
pins: 1 PB5 (PCINT13/ICP3/MOSI) (io), 2 PB6 (PCINT14/OC3A/MISO) (io), 3 PB7 (PCINT15/OC3B/SCK) (io), 4 ~{RESET} (in), 5 VCC (power), 6 GND (power), 7 XTAL2, 8 XTAL1, 9 PD0 (PCINT24/RXD0/T3) (io), 10 PD1 (PCINT25/TXD0) (io), 11 PD2 (PCINT/RXD1/26/INT0) (io), 12 PD3 (PCINT/TXD1/27/INT1) (io), 13 PD4 (PCINT28/XCK1/OC1B) (io), 14 PD5 (PCINT29/OC1A) (io), 15 PD6 (PCINT30/OC2B/ICP) (io), 16 PD7 (PCINT31/OC2A) (io), 17 VCC (power), 18 GND (power), 19 PC0 (PCINT16/SCL) (io), 20 PC1 (PCINT17/SDA) (io), 21 PC2 (PCINT18/TCK) (io), 22 PC3 (PCINT19/TMS) (io), 23 PC4 (TDO/PCINT20) (io), 24 PC5 (TDI/PCINT21) (io), 25 PC6 (TOSC1/PCINT22) (io), 26 PC7 (TOSC2/PCINT23) (io), 27 AVCC (power), 28 GND (power), 29 AREF (power), 30 PA7 (ADC7/PCINT7) (io), 31 PA6 (ADC6/PCINT6) (io), 32 PA5 (ADC5/PCINT5) (io), 33 PA4 (ADC4/PCINT4) (io), 34 PA3 (ADC3/PCINT3) (io), 35 PA2 (ADC2/PCINT2) (io), 36 PA1 (ADC1/PCINT1) (io), 37 PA0 (ADC0/PCINT0) (io), 38 VCC (power), 39 GND (power), 40 PB0 (XCK0/T0/PCINT8) (io), 41 PB1 (T1/CLKO/PCINT9) (io), 42 PB2 (AIN0/INT2/PCINT10) (io), 43 PB3 (AIN1/OC0A/PCINT11) (io), 44 PB4 (~{SS}/OC0B/PCINT12) (io)